# Altium integrated library 19inch.IntLib: 37 symbols
Pins are listed as number, name and electrical type; pins without a type are passive.

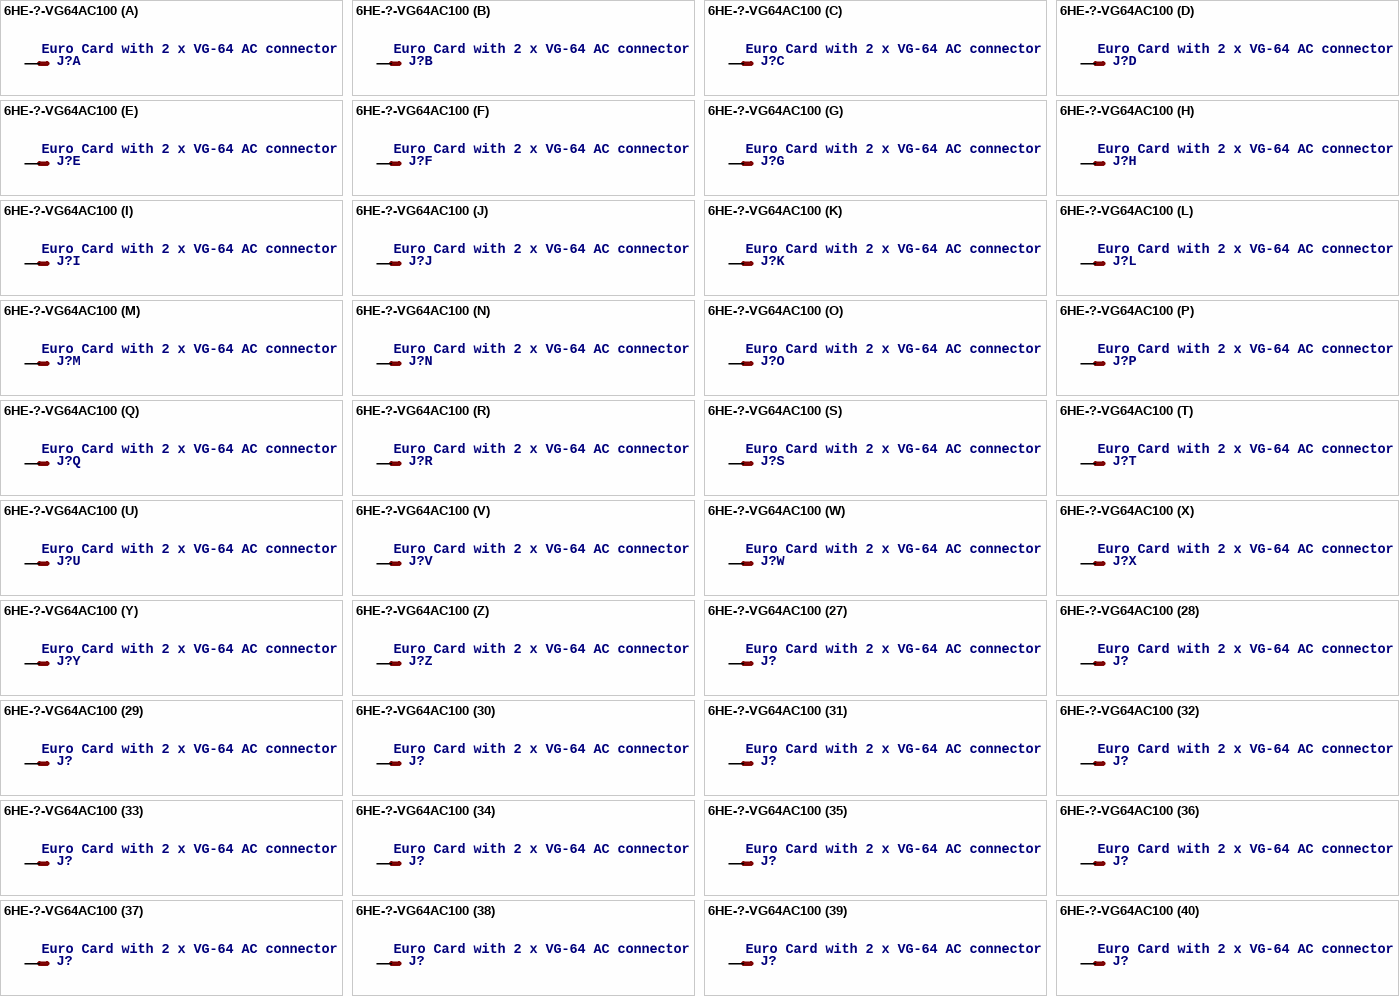
[diagram p0: symbol 6HE-?-VG64AC100]

## 6HE-?-VG64AC100
designator J?, comment Euro Card with 2 x VG-64 AC connector
footprint 6HE_100-VG64AC
part A pins: 1-A1 MSV
part B pins: 1-A2 MS
part C pins: 1-A3 MS
part D pins: 1-A4 MS
part E pins: 1-A5 MS
part F pins: 1-A6 MS
part G pins: 1-A7 MS
part H pins: 1-A8 MS
part I pins: 1-A9 MS
part J pins: 1-A10 MS
part K pins: 1-A11 MS
part L pins: 1-A12 MS
part M pins: 1-A13 MS
part N pins: 1-A14 MS
part O pins: 1-A15 MS
part P pins: 1-A16 MS
part Q pins: 1-A17 MS
part R pins: 1-A18 MS
part S pins: 1-A19 MS
part T pins: 1-A20 MS
part U pins: 1-A21 MS
part V pins: 1-A22 MS
part W pins: 1-A23 MS
part X pins: 1-A24 MS
part Y pins: 1-A25 MS
part Z pins: 1-A26 MS
part 27 pins: 1-A27 MS
part 28 pins: 1-A28 MS
part 29 pins: 1-A29 MS
part 30 pins: 1-A30 MS
part 31 pins: 1-A31 MS
part 32 pins: 1-A32 MS
part 33 pins: 1-C1 MSV
part 34 pins: 1-C2 MS
part 35 pins: 1-C3 MS
part 36 pins: 1-C4 MS
part 37 pins: 1-C5 MS
part 38 pins: 1-C6 MS
part 39 pins: 1-C7 MS
part 40 pins: 1-C8 MS
part 41 pins: 1-C9 MS
part 42 pins: 1-C10 MS
part 43 pins: 1-C11 MS
part 44 pins: 1-C12 MS
part 45 pins: 1-C13 MS
part 46 pins: 1-C14 MS
part 47 pins: 1-C15 MS
part 48 pins: 1-C16 MS
part 49 pins: 1-C17 MS
part 50 pins: 1-C18 MS
part 51 pins: 1-C19 MS
part 52 pins: 1-C20 MS
part 53 pins: 1-C21 MS
part 54 pins: 1-C22 MS
part 55 pins: 1-C23 MS
part 56 pins: 1-C24 MS
part 57 pins: 1-C25 MS
part 58 pins: 1-C26 MS
part 59 pins: 1-C27 MS
part 60 pins: 1-C28 MS
part 61 pins: 1-C29 MS
part 62 pins: 1-C30 MS
part 63 pins: 1-C31 MS
part 64 pins: 1-C32 MS
part 65 pins: 2-A1 MSV
part 66 pins: 2-A2 MS
part 67 pins: 2-A3 MS
part 68 pins: 2-A4 MS
part 69 pins: 2-A5 MS
part 70 pins: 2-A6 MS
part 71 pins: 2-A7 MS
part 72 pins: 2-A8 MS
part 73 pins: 2-A9 MS
part 74 pins: 2-A10 MS
part 75 pins: 2-A11 MS
part 76 pins: 2-A12 MS
part 77 pins: 2-A13 MS
part 78 pins: 2-A14 MS
part 79 pins: 2-A15 MS
part 80 pins: 2-A16 MS
part 81 pins: 2-A17 MS
part 82 pins: 2-A18 MS
part 83 pins: 2-A19 MS
part 84 pins: 2-A20 MS
part 85 pins: 2-A21 MS
part 86 pins: 2-A22 MS
part 87 pins: 2-A23 MS
part 88 pins: 2-A24 MS
part 89 pins: 2-A25 MS
part 90 pins: 2-A26 MS
part 91 pins: 2-A27 MS
part 92 pins: 2-A28 MS
part 93 pins: 2-A29 MS
part 94 pins: 2-A30 MS
part 95 pins: 2-A31 MS
part 96 pins: 2-A32 MS
part 97 pins: 2-C1 MSV
part 98 pins: 2-C2 MS
part 99 pins: 2-C3 MS
part 100 pins: 2-C4 MS
part 101 pins: 2-C5 MS
part 102 pins: 2-C6 MS
part 103 pins: 2-C7 MS
part 104 pins: 2-C8 MS
part 105 pins: 2-C9 MS
part 106 pins: 2-C10 MS
part 107 pins: 2-C11 MS
part 108 pins: 2-C12 MS
part 109 pins: 2-C13 MS
part 110 pins: 2-C14 MS
part 111 pins: 2-C15 MS
part 112 pins: 2-C16 MS
part 113 pins: 2-C17 MS
part 114 pins: 2-C18 MS
part 115 pins: 2-C19 MS
part 116 pins: 2-C20 MS
part 117 pins: 2-C21 MS
part 118 pins: 2-C22 MS
part 119 pins: 2-C23 MS
part 120 pins: 2-C24 MS
part 121 pins: 2-C25 MS
part 122 pins: 2-C26 MS
part 123 pins: 2-C27 MS
part 124 pins: 2-C28 MS
part 125 pins: 2-C29 MS
part 126 pins: 2-C30 MS
part 127 pins: 2-C31 MS
part 128 pins: 2-C32 MS

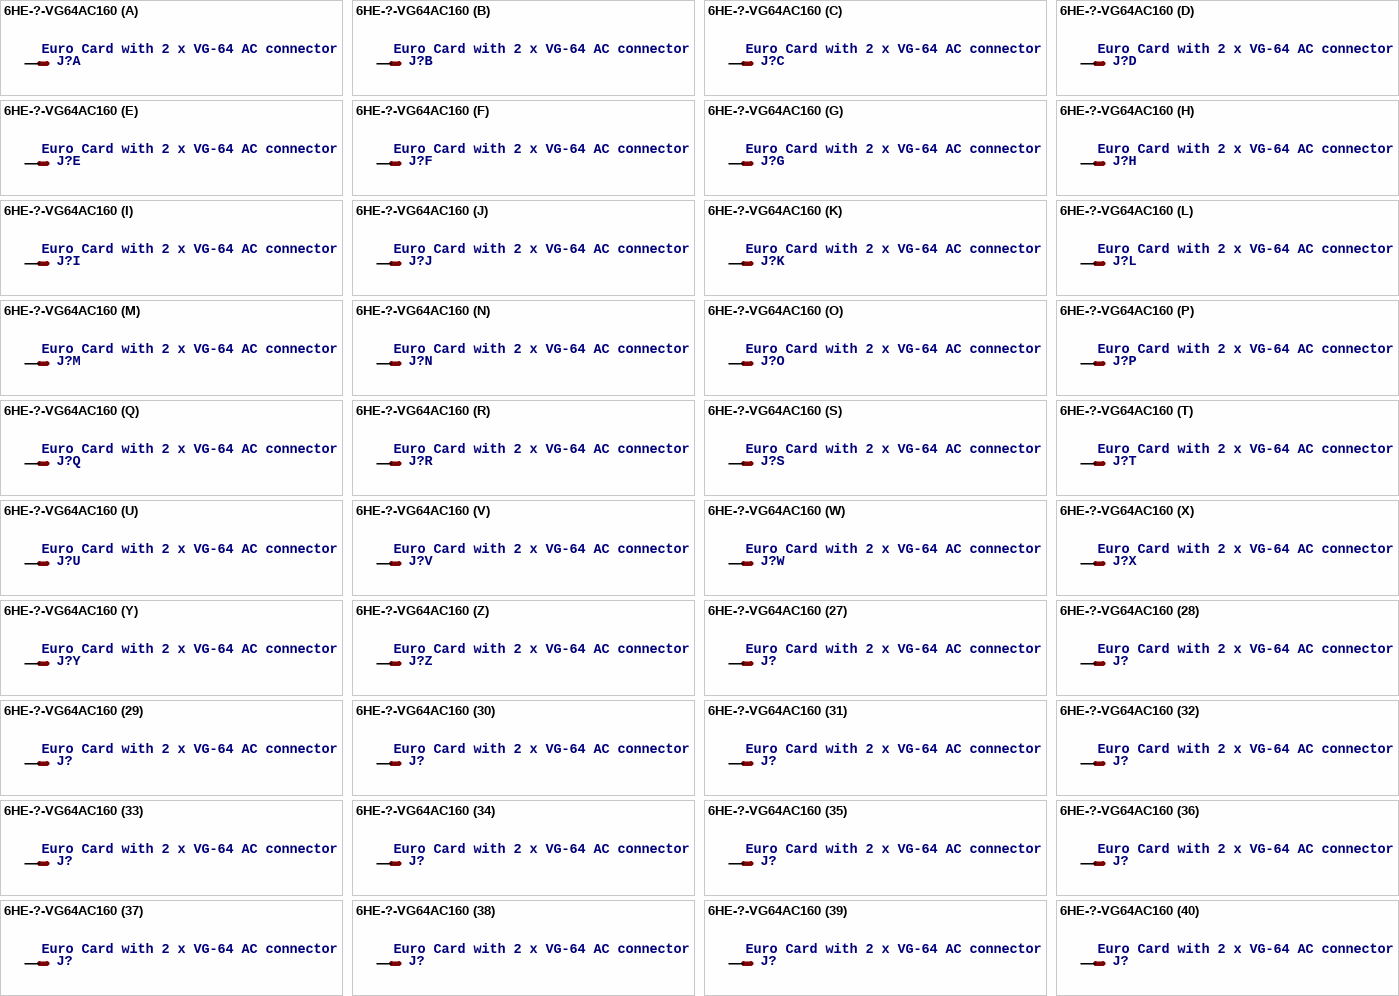
[diagram p1: symbol 6HE-?-VG64AC160]

## 6HE-?-VG64AC160
designator J?, comment Euro Card with 2 x VG-64 AC connector
footprint 6HE_160-VG64AC
part A pins: 1-A1 MSV
part B pins: 1-A2 MS
part C pins: 1-A3 MS
part D pins: 1-A4 MS
part E pins: 1-A5 MS
part F pins: 1-A6 MS
part G pins: 1-A7 MS
part H pins: 1-A8 MS
part I pins: 1-A9 MS
part J pins: 1-A10 MS
part K pins: 1-A11 MS
part L pins: 1-A12 MS
part M pins: 1-A13 MS
part N pins: 1-A14 MS
part O pins: 1-A15 MS
part P pins: 1-A16 MS
part Q pins: 1-A17 MS
part R pins: 1-A18 MS
part S pins: 1-A19 MS
part T pins: 1-A20 MS
part U pins: 1-A21 MS
part V pins: 1-A22 MS
part W pins: 1-A23 MS
part X pins: 1-A24 MS
part Y pins: 1-A25 MS
part Z pins: 1-A26 MS
part 27 pins: 1-A27 MS
part 28 pins: 1-A28 MS
part 29 pins: 1-A29 MS
part 30 pins: 1-A30 MS
part 31 pins: 1-A31 MS
part 32 pins: 1-A32 MS
part 33 pins: 1-C1 MSV
part 34 pins: 1-C2 MS
part 35 pins: 1-C3 MS
part 36 pins: 1-C4 MS
part 37 pins: 1-C5 MS
part 38 pins: 1-C6 MS
part 39 pins: 1-C7 MS
part 40 pins: 1-C8 MS
part 41 pins: 1-C9 MS
part 42 pins: 1-C10 MS
part 43 pins: 1-C11 MS
part 44 pins: 1-C12 MS
part 45 pins: 1-C13 MS
part 46 pins: 1-C14 MS
part 47 pins: 1-C15 MS
part 48 pins: 1-C16 MS
part 49 pins: 1-C17 MS
part 50 pins: 1-C18 MS
part 51 pins: 1-C19 MS
part 52 pins: 1-C20 MS
part 53 pins: 1-C21 MS
part 54 pins: 1-C22 MS
part 55 pins: 1-C23 MS
part 56 pins: 1-C24 MS
part 57 pins: 1-C25 MS
part 58 pins: 1-C26 MS
part 59 pins: 1-C27 MS
part 60 pins: 1-C28 MS
part 61 pins: 1-C29 MS
part 62 pins: 1-C30 MS
part 63 pins: 1-C31 MS
part 64 pins: 1-C32 MS
part 65 pins: 2-A1 MSV
part 66 pins: 2-A2 MS
part 67 pins: 2-A3 MS
part 68 pins: 2-A4 MS
part 69 pins: 2-A5 MS
part 70 pins: 2-A6 MS
part 71 pins: 2-A7 MS
part 72 pins: 2-A8 MS
part 73 pins: 2-A9 MS
part 74 pins: 2-A10 MS
part 75 pins: 2-A11 MS
part 76 pins: 2-A12 MS
part 77 pins: 2-A13 MS
part 78 pins: 2-A14 MS
part 79 pins: 2-A15 MS
part 80 pins: 2-A16 MS
part 81 pins: 2-A17 MS
part 82 pins: 2-A18 MS
part 83 pins: 2-A19 MS
part 84 pins: 2-A20 MS
part 85 pins: 2-A21 MS
part 86 pins: 2-A22 MS
part 87 pins: 2-A23 MS
part 88 pins: 2-A24 MS
part 89 pins: 2-A25 MS
part 90 pins: 2-A26 MS
part 91 pins: 2-A27 MS
part 92 pins: 2-A28 MS
part 93 pins: 2-A29 MS
part 94 pins: 2-A30 MS
part 95 pins: 2-A31 MS
part 96 pins: 2-A32 MS
part 97 pins: 2-C1 MSV
part 98 pins: 2-C2 MS
part 99 pins: 2-C3 MS
part 100 pins: 2-C4 MS
part 101 pins: 2-C5 MS
part 102 pins: 2-C6 MS
part 103 pins: 2-C7 MS
part 104 pins: 2-C8 MS
part 105 pins: 2-C9 MS
part 106 pins: 2-C10 MS
part 107 pins: 2-C11 MS
part 108 pins: 2-C12 MS
part 109 pins: 2-C13 MS
part 110 pins: 2-C14 MS
part 111 pins: 2-C15 MS
part 112 pins: 2-C16 MS
part 113 pins: 2-C17 MS
part 114 pins: 2-C18 MS
part 115 pins: 2-C19 MS
part 116 pins: 2-C20 MS
part 117 pins: 2-C21 MS
part 118 pins: 2-C22 MS
part 119 pins: 2-C23 MS
part 120 pins: 2-C24 MS
part 121 pins: 2-C25 MS
part 122 pins: 2-C26 MS
part 123 pins: 2-C27 MS
part 124 pins: 2-C28 MS
part 125 pins: 2-C29 MS
part 126 pins: 2-C30 MS
part 127 pins: 2-C31 MS
part 128 pins: 2-C32 MS

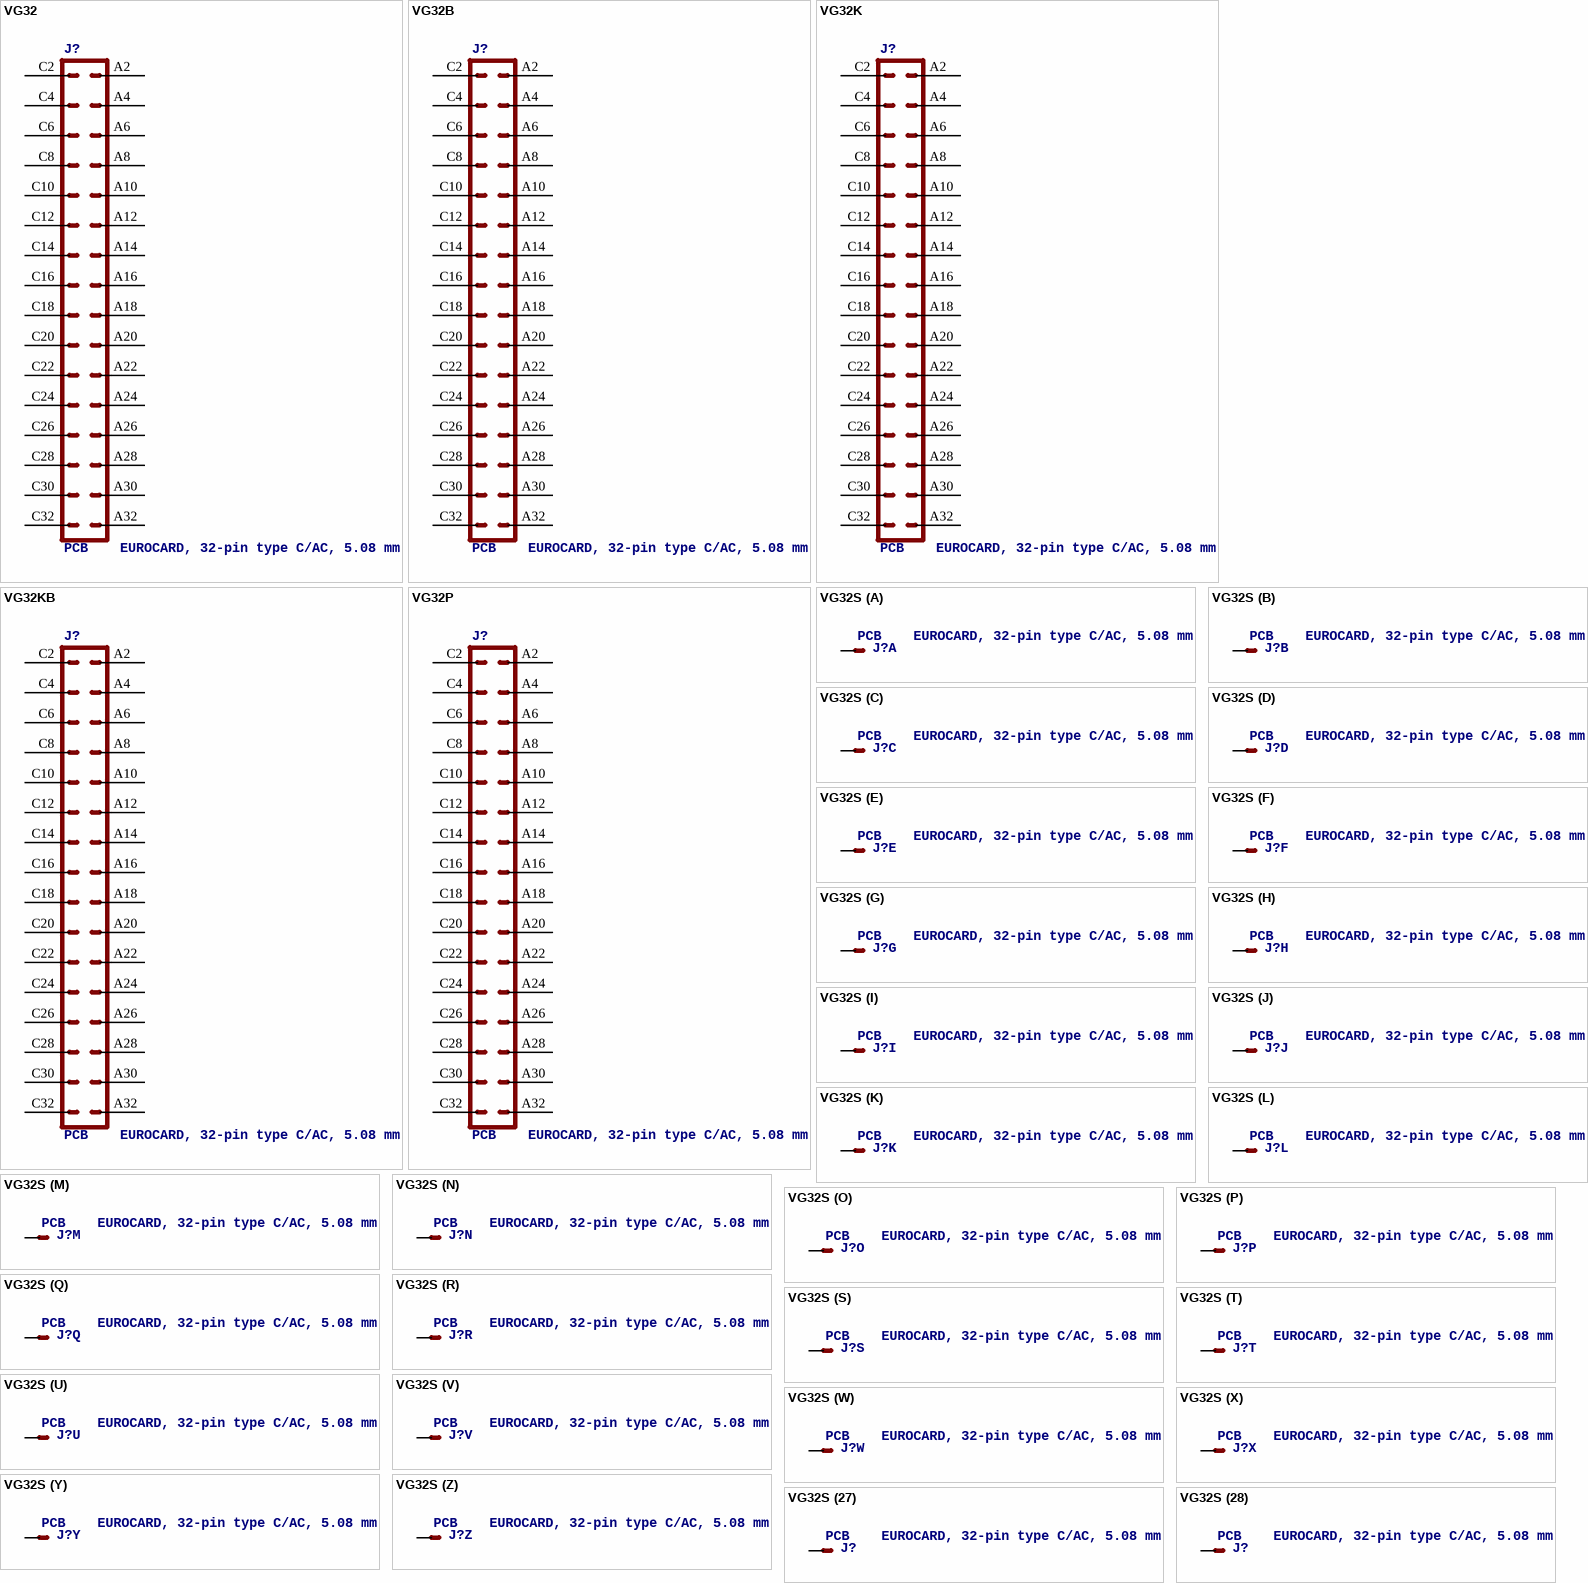
[diagram p2: symbols VG32 to VG32S]

## VG32
designator J?, comment PCB    EUROCARD, 32-pin type C/AC, 5.08 mm
footprint VG32
pins: A2, A4, A6, A8, A10, A12, A14, A16, A18, A20, A22, A24, A26, A28, A30, A32, C2, C4, C6, C8, C10, C12, C14, C16, C18, C20, C22, C24, C26, C28, C30, C32

## VG32B
designator J?, comment PCB    EUROCARD, 32-pin type C/AC, 5.08 mm
footprint VG32B
pins: A2, A4, A6, A8, A10, A12, A14, A16, A18, A20, A22, A24, A26, A28, A30, A32, C2, C4, C6, C8, C10, C12, C14, C16, C18, C20, C22, C24, C26, C28, C30, C32

## VG32K
designator J?, comment PCB    EUROCARD, 32-pin type C/AC, 5.08 mm
footprint VG32K
pins: A2, A4, A6, A8, A10, A12, A14, A16, A18, A20, A22, A24, A26, A28, A30, A32, C2, C4, C6, C8, C10, C12, C14, C16, C18, C20, C22, C24, C26, C28, C30, C32

## VG32KB
designator J?, comment PCB    EUROCARD, 32-pin type C/AC, 5.08 mm
footprint VG32KB
pins: A2, A4, A6, A8, A10, A12, A14, A16, A18, A20, A22, A24, A26, A28, A30, A32, C2, C4, C6, C8, C10, C12, C14, C16, C18, C20, C22, C24, C26, C28, C30, C32

## VG32P
designator J?, comment PCB    EUROCARD, 32-pin type C/AC, 5.08 mm
footprint VG32P
pins: A2, A4, A6, A8, A10, A12, A14, A16, A18, A20, A22, A24, A26, A28, A30, A32, C2, C4, C6, C8, C10, C12, C14, C16, C18, C20, C22, C24, C26, C28, C30, C32

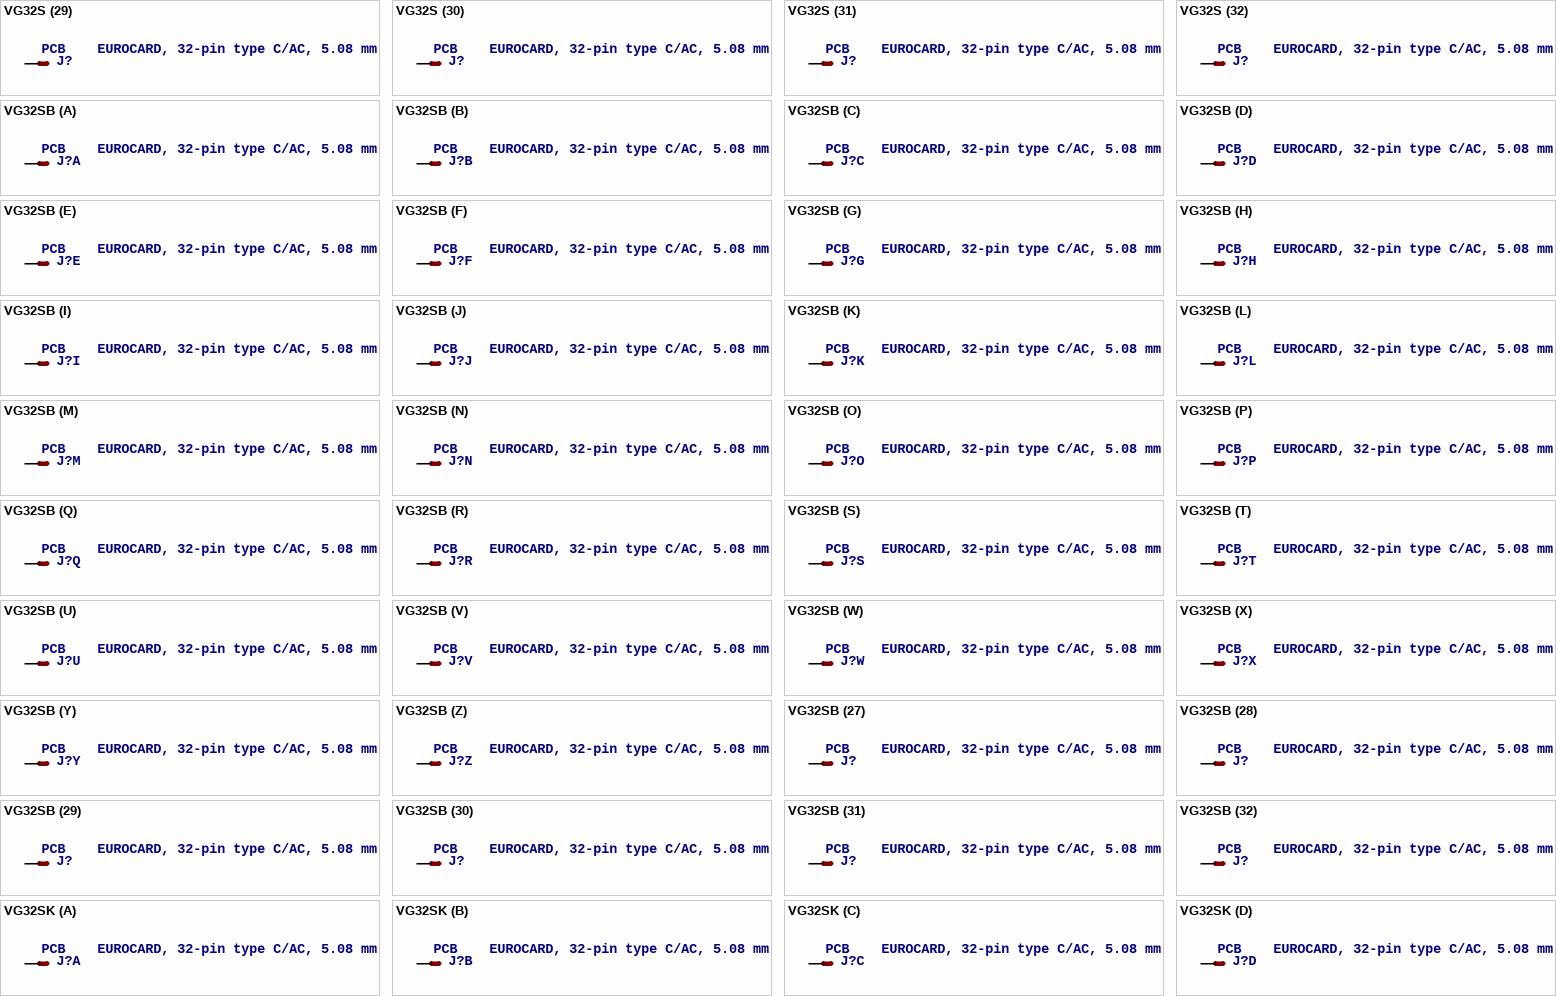
[diagram p3: symbols VG32S to VG32SK]

## VG32S
designator J?, comment PCB    EUROCARD, 32-pin type C/AC, 5.08 mm
footprint VG32
part A pins: A2 MS
part B pins: A4 MS
part C pins: A6 MS
part D pins: A8 MS
part E pins: A10 MS
part F pins: A12 MS
part G pins: A14 MS
part H pins: A16 MS
part I pins: A18 MS
part J pins: A20 MS
part K pins: A22 MS
part L pins: A24 MS
part M pins: A26 MS
part N pins: A28 MS
part O pins: A30 MS
part P pins: A32 MS
part Q pins: C2 MS
part R pins: C4 MS
part S pins: C6 MS
part T pins: C8 MS
part U pins: C10 MS
part V pins: C12 MS
part W pins: C14 MS
part X pins: C16 MS
part Y pins: C18 MS
part Z pins: C20 MS
part 27 pins: C22 MS
part 28 pins: C24 MS
part 29 pins: C26 MS
part 30 pins: C28 MS
part 31 pins: C30 MS
part 32 pins: C32 MSV

## VG32SB
designator J?, comment PCB    EUROCARD, 32-pin type C/AC, 5.08 mm
footprint VG32B
part A pins: A2 MS
part B pins: A4 MS
part C pins: A6 MS
part D pins: A8 MS
part E pins: A10 MS
part F pins: A12 MS
part G pins: A14 MS
part H pins: A16 MS
part I pins: A18 MS
part J pins: A20 MS
part K pins: A22 MS
part L pins: A24 MS
part M pins: A26 MS
part N pins: A28 MS
part O pins: A30 MS
part P pins: A32 MS
part Q pins: C2 MS
part R pins: C4 MS
part S pins: C6 MS
part T pins: C8 MS
part U pins: C10 MS
part V pins: C12 MS
part W pins: C14 MS
part X pins: C16 MS
part Y pins: C18 MS
part Z pins: C20 MS
part 27 pins: C22 MS
part 28 pins: C24 MS
part 29 pins: C26 MS
part 30 pins: C28 MS
part 31 pins: C30 MS
part 32 pins: C32 MSV

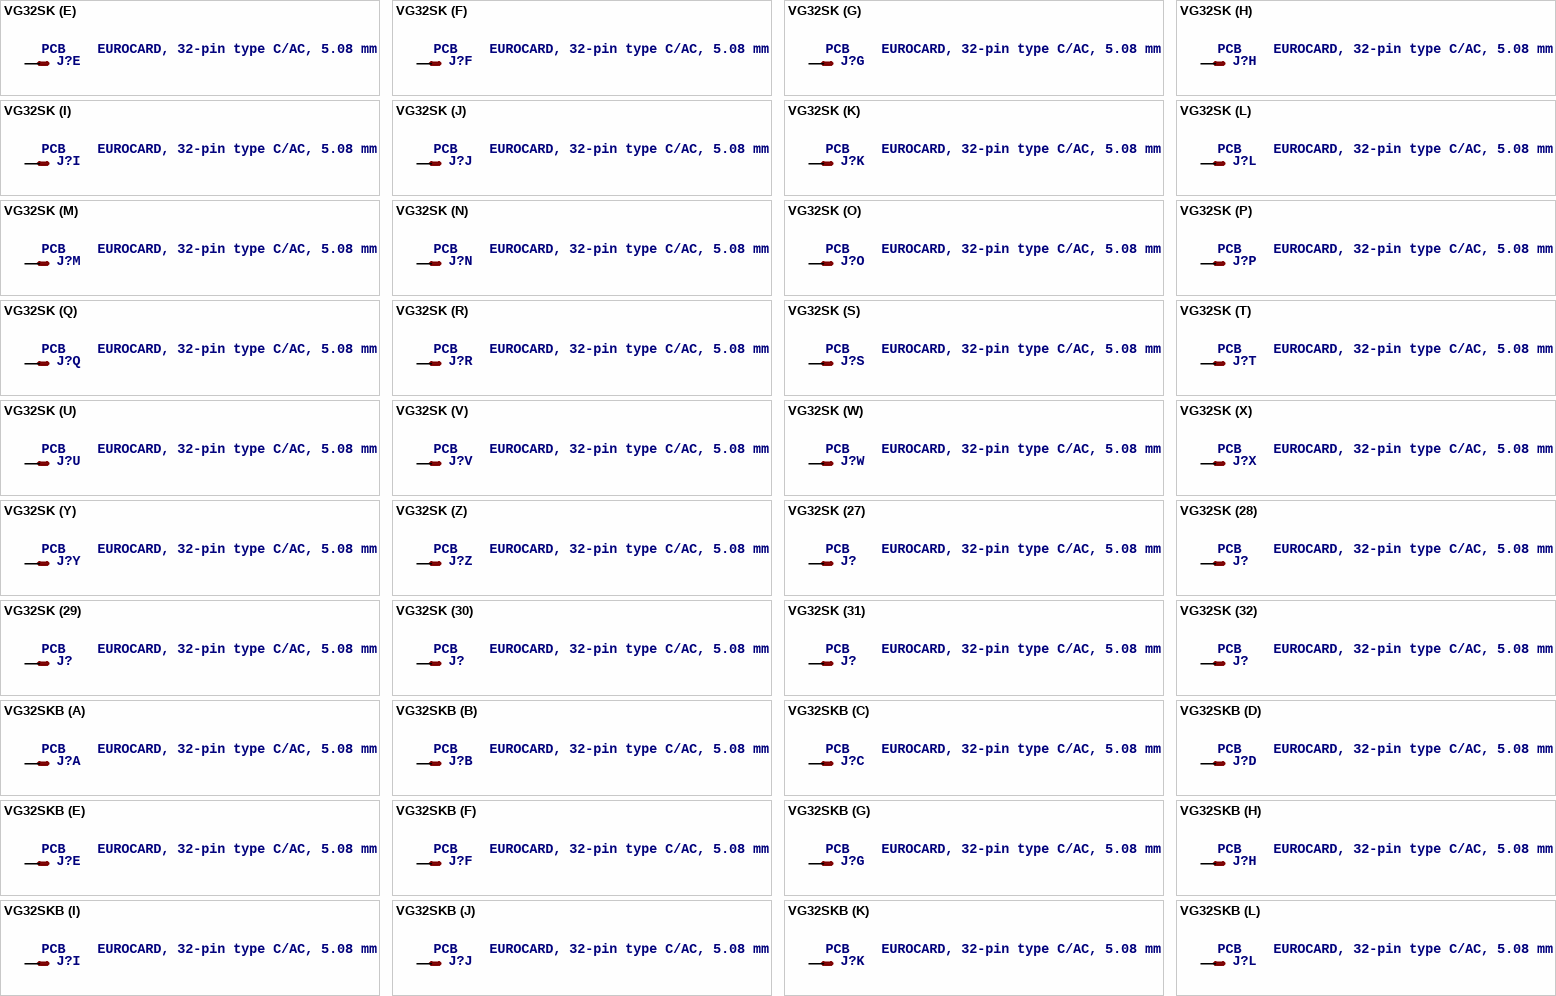
[diagram p4: symbols VG32SK to VG32SKB]

## VG32SK
designator J?, comment PCB    EUROCARD, 32-pin type C/AC, 5.08 mm
footprint VG32K
part A pins: A2 MS
part B pins: A4 MS
part C pins: A6 MS
part D pins: A8 MS
part E pins: A10 MS
part F pins: A12 MS
part G pins: A14 MS
part H pins: A16 MS
part I pins: A18 MS
part J pins: A20 MS
part K pins: A22 MS
part L pins: A24 MS
part M pins: A26 MS
part N pins: A28 MS
part O pins: A30 MS
part P pins: A32 MS
part Q pins: C2 MS
part R pins: C4 MS
part S pins: C6 MS
part T pins: C8 MS
part U pins: C10 MS
part V pins: C12 MS
part W pins: C14 MS
part X pins: C16 MS
part Y pins: C18 MS
part Z pins: C20 MS
part 27 pins: C22 MS
part 28 pins: C24 MS
part 29 pins: C26 MS
part 30 pins: C28 MS
part 31 pins: C30 MS
part 32 pins: C32 MSV

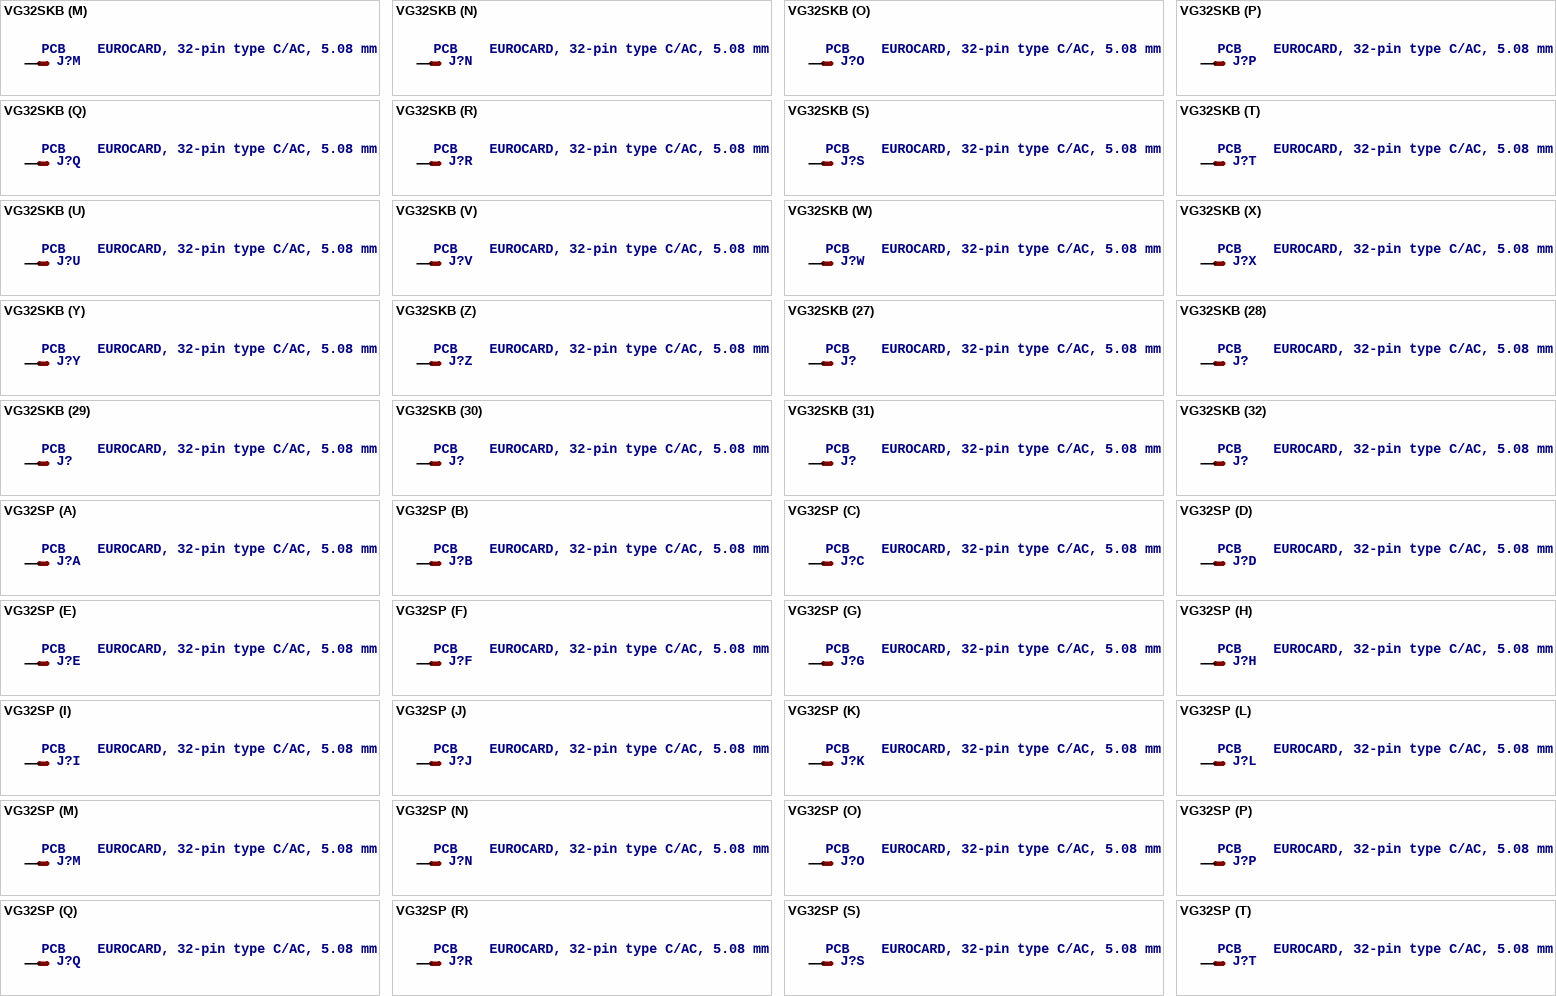
[diagram p5: symbols VG32SKB to VG32SP]

## VG32SKB
designator J?, comment PCB    EUROCARD, 32-pin type C/AC, 5.08 mm
footprint VG32KB
part A pins: A2 MS
part B pins: A4 MS
part C pins: A6 MS
part D pins: A8 MS
part E pins: A10 MS
part F pins: A12 MS
part G pins: A14 MS
part H pins: A16 MS
part I pins: A18 MS
part J pins: A20 MS
part K pins: A22 MS
part L pins: A24 MS
part M pins: A26 MS
part N pins: A28 MS
part O pins: A30 MS
part P pins: A32 MS
part Q pins: C2 MS
part R pins: C4 MS
part S pins: C6 MS
part T pins: C8 MS
part U pins: C10 MS
part V pins: C12 MS
part W pins: C14 MS
part X pins: C16 MS
part Y pins: C18 MS
part Z pins: C20 MS
part 27 pins: C22 MS
part 28 pins: C24 MS
part 29 pins: C26 MS
part 30 pins: C28 MS
part 31 pins: C30 MS
part 32 pins: C32 MSV

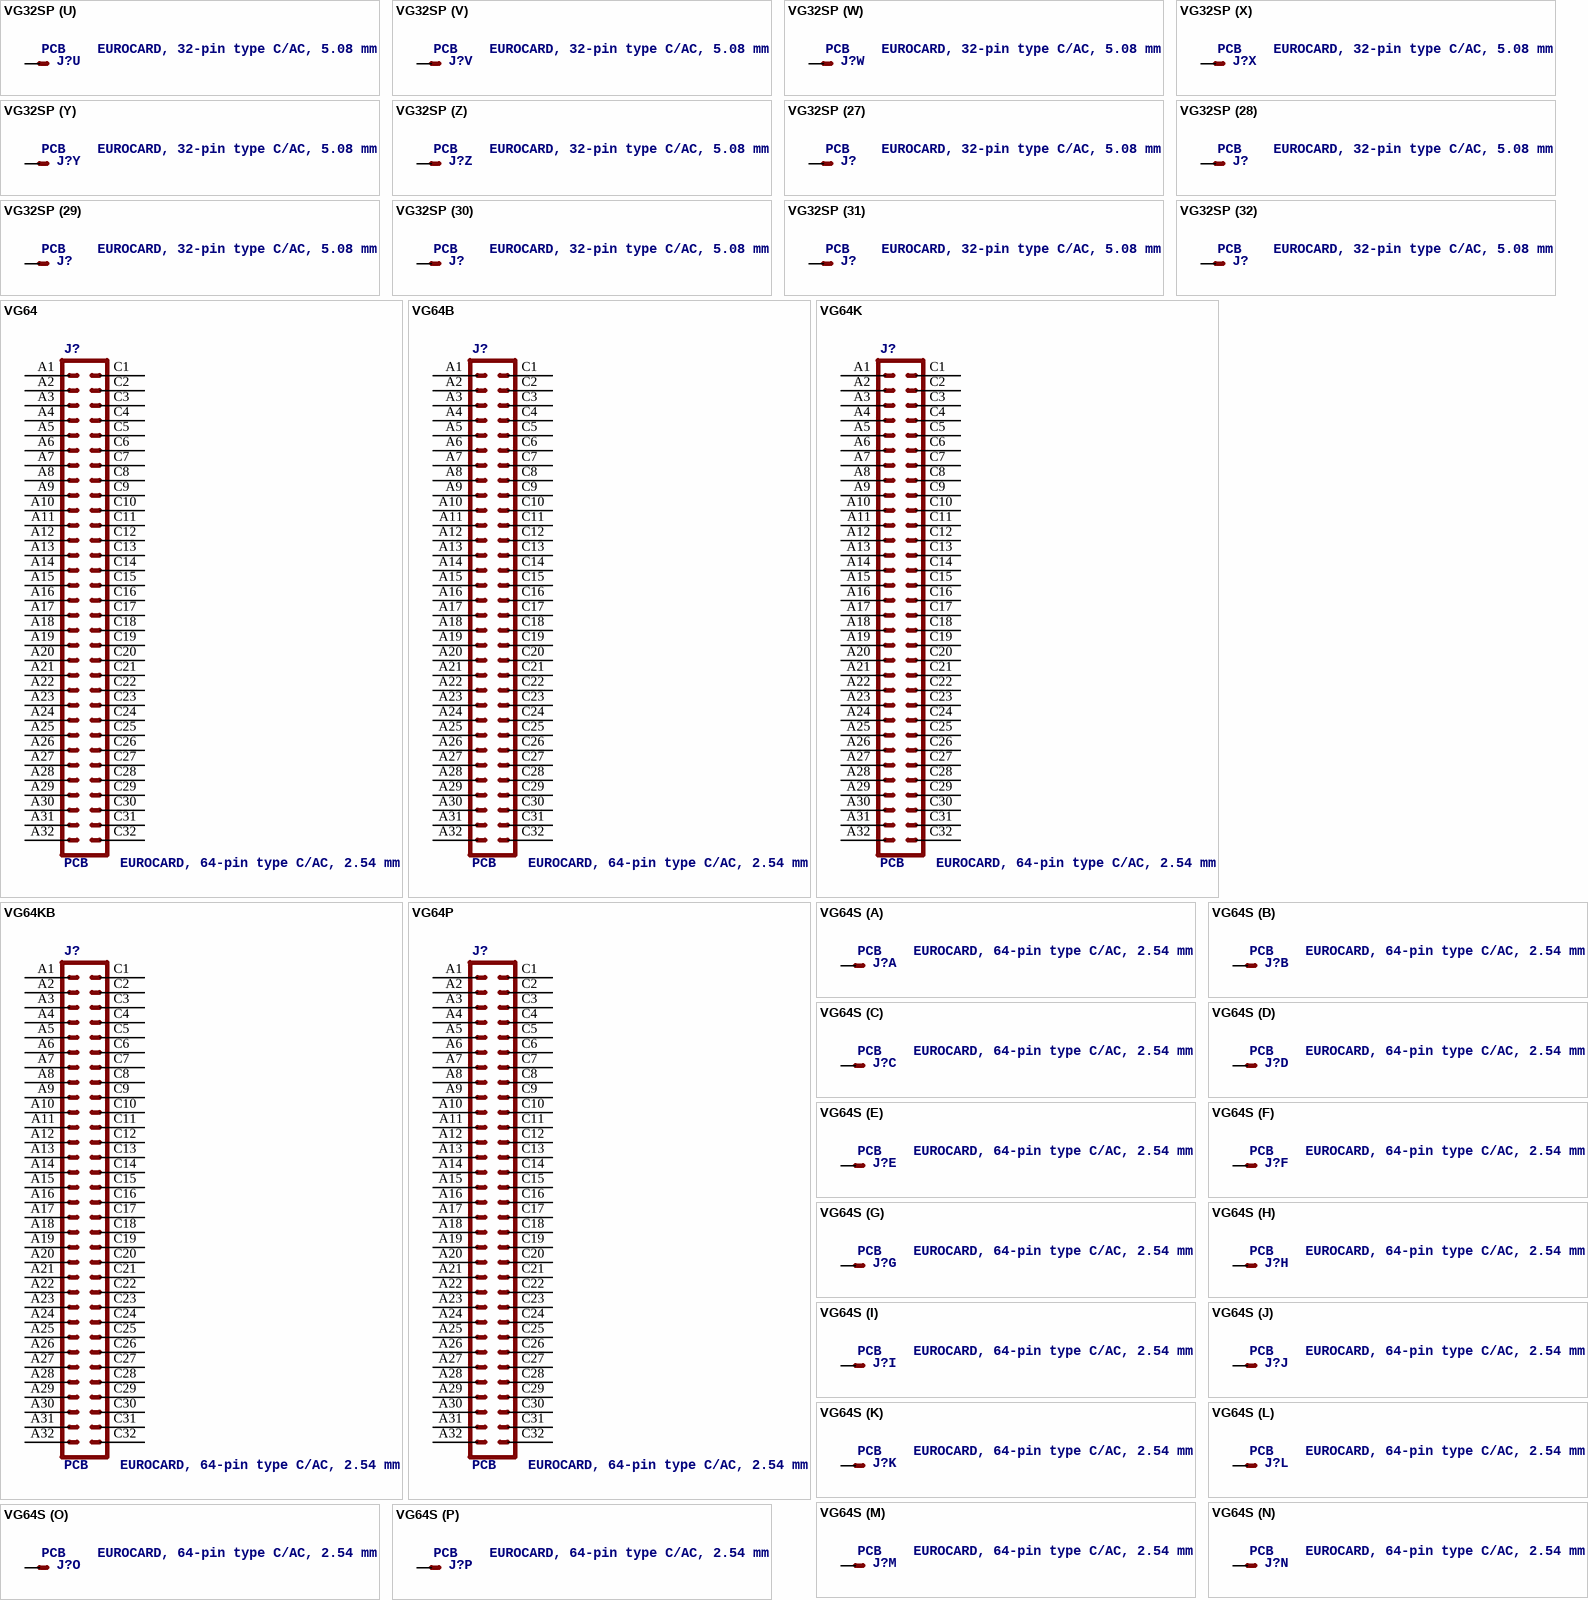
[diagram p6: symbols VG32SP to VG64S]

## VG32SP
designator J?, comment PCB    EUROCARD, 32-pin type C/AC, 5.08 mm
footprint VG32P
part A pins: A2 MS
part B pins: A4 MS
part C pins: A6 MS
part D pins: A8 MS
part E pins: A10 MS
part F pins: A12 MS
part G pins: A14 MS
part H pins: A16 MS
part I pins: A18 MS
part J pins: A20 MS
part K pins: A22 MS
part L pins: A24 MS
part M pins: A26 MS
part N pins: A28 MS
part O pins: A30 MS
part P pins: A32 MS
part Q pins: C2 MS
part R pins: C4 MS
part S pins: C6 MS
part T pins: C8 MS
part U pins: C10 MS
part V pins: C12 MS
part W pins: C14 MS
part X pins: C16 MS
part Y pins: C18 MS
part Z pins: C20 MS
part 27 pins: C22 MS
part 28 pins: C24 MS
part 29 pins: C26 MS
part 30 pins: C28 MS
part 31 pins: C30 MS
part 32 pins: C32 MSV

## VG64
designator J?, comment PCB    EUROCARD, 64-pin type C/AC, 2.54 mm
footprint VG64
pins: A1, A2, A3, A4, A5, A6, A7, A8, A9, A10, A11, A12, A13, A14, A15, A16, A17, A18, A19, A20, A21, A22, A23, A24, A25, A26, A27, A28, A29, A30, A31, A32, C1, C2, C3, C4, C5, C6, C7, C8, C9, C10, C11, C12, C13, C14, C15, C16, C17, C18, C19, C20, C21, C22, C23, C24, C25, C26, C27, C28, C29, C30, C31, C32

## VG64B
designator J?, comment PCB    EUROCARD, 64-pin type C/AC, 2.54 mm
footprint VG64B
pins: A1, A2, A3, A4, A5, A6, A7, A8, A9, A10, A11, A12, A13, A14, A15, A16, A17, A18, A19, A20, A21, A22, A23, A24, A25, A26, A27, A28, A29, A30, A31, A32, C1, C2, C3, C4, C5, C6, C7, C8, C9, C10, C11, C12, C13, C14, C15, C16, C17, C18, C19, C20, C21, C22, C23, C24, C25, C26, C27, C28, C29, C30, C31, C32

## VG64K
designator J?, comment PCB    EUROCARD, 64-pin type C/AC, 2.54 mm
footprint VG64K
pins: A1, A2, A3, A4, A5, A6, A7, A8, A9, A10, A11, A12, A13, A14, A15, A16, A17, A18, A19, A20, A21, A22, A23, A24, A25, A26, A27, A28, A29, A30, A31, A32, C1, C2, C3, C4, C5, C6, C7, C8, C9, C10, C11, C12, C13, C14, C15, C16, C17, C18, C19, C20, C21, C22, C23, C24, C25, C26, C27, C28, C29, C30, C31, C32

## VG64KB
designator J?, comment PCB    EUROCARD, 64-pin type C/AC, 2.54 mm
footprint VG64KB
pins: A1, A2, A3, A4, A5, A6, A7, A8, A9, A10, A11, A12, A13, A14, A15, A16, A17, A18, A19, A20, A21, A22, A23, A24, A25, A26, A27, A28, A29, A30, A31, A32, C1, C2, C3, C4, C5, C6, C7, C8, C9, C10, C11, C12, C13, C14, C15, C16, C17, C18, C19, C20, C21, C22, C23, C24, C25, C26, C27, C28, C29, C30, C31, C32

## VG64P
designator J?, comment PCB    EUROCARD, 64-pin type C/AC, 2.54 mm
footprint VG64P
pins: A1, A2, A3, A4, A5, A6, A7, A8, A9, A10, A11, A12, A13, A14, A15, A16, A17, A18, A19, A20, A21, A22, A23, A24, A25, A26, A27, A28, A29, A30, A31, A32, C1, C2, C3, C4, C5, C6, C7, C8, C9, C10, C11, C12, C13, C14, C15, C16, C17, C18, C19, C20, C21, C22, C23, C24, C25, C26, C27, C28, C29, C30, C31, C32

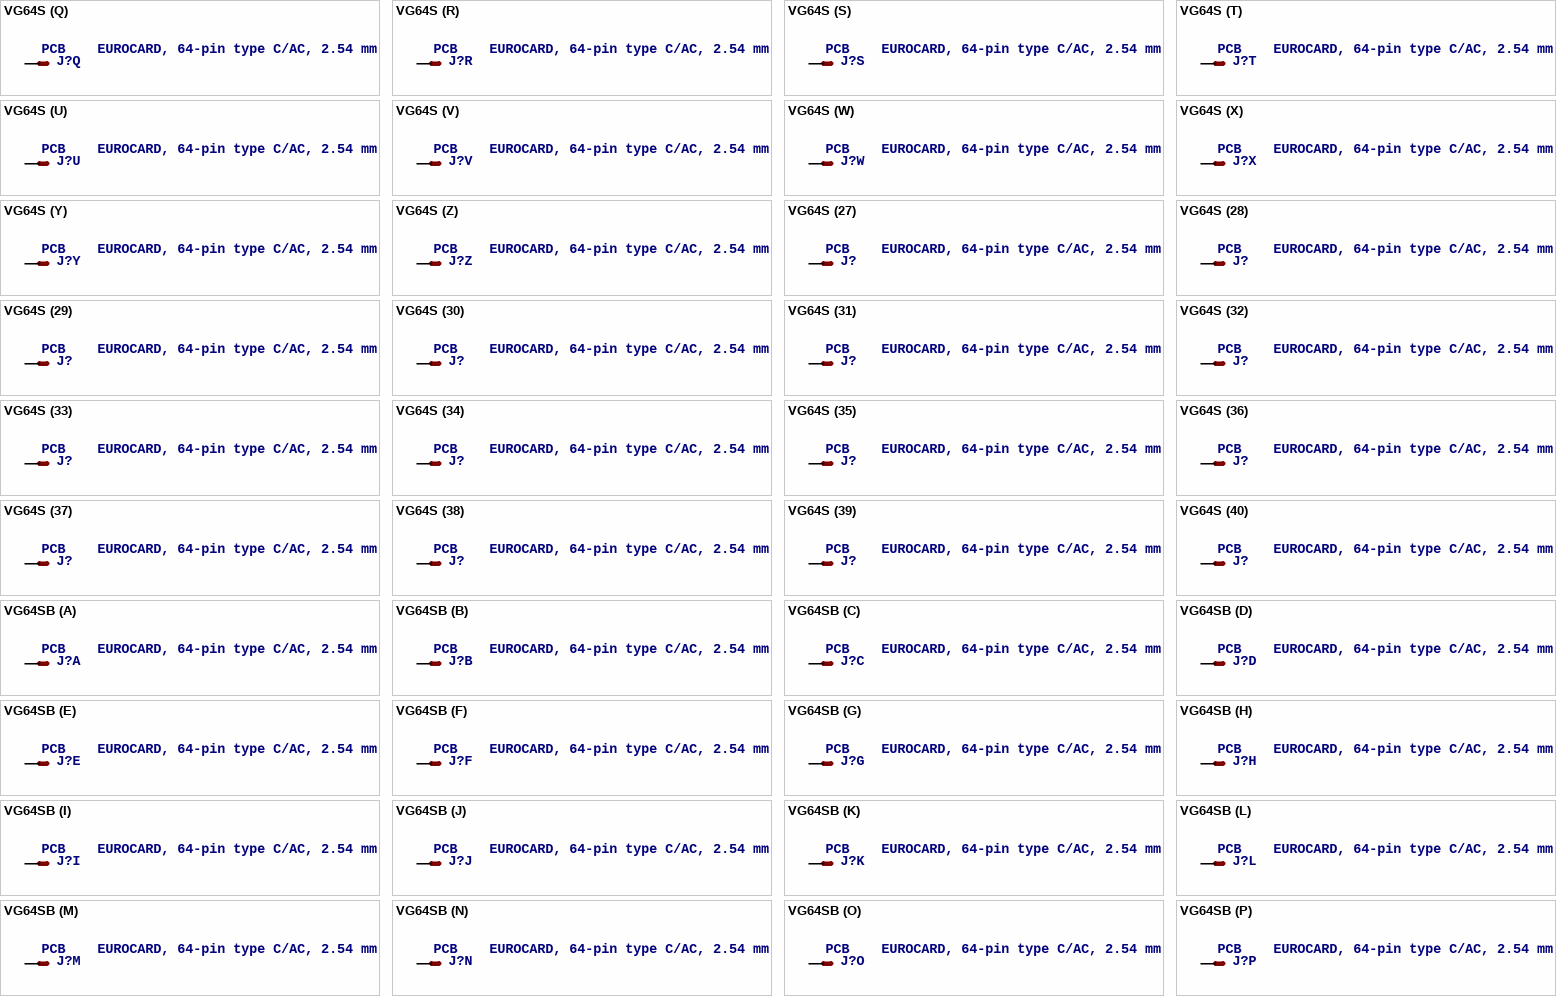
[diagram p7: symbols VG64S to VG64SB]

## VG64S
designator J?, comment PCB    EUROCARD, 64-pin type C/AC, 2.54 mm
footprint VG64
part A pins: A1 MS
part B pins: A2 MS
part C pins: A3 MS
part D pins: A4 MS
part E pins: A5 MS
part F pins: A6 MS
part G pins: A7 MS
part H pins: A8 MS
part I pins: A9 MS
part J pins: A10 MS
part K pins: A11 MS
part L pins: A12 MS
part M pins: A13 MS
part N pins: A14 MS
part O pins: A15 MS
part P pins: A16 MS
part Q pins: A17 MS
part R pins: A18 MS
part S pins: A19 MS
part T pins: A20 MS
part U pins: A21 MS
part V pins: A22 MS
part W pins: A23 MS
part X pins: A24 MS
part Y pins: A25 MS
part Z pins: A26 MS
part 27 pins: A27 MS
part 28 pins: A28 MS
part 29 pins: A29 MS
part 30 pins: A30 MS
part 31 pins: A31 MS
part 32 pins: A32 MS
part 33 pins: C1 MS
part 34 pins: C2 MS
part 35 pins: C3 MS
part 36 pins: C4 MS
part 37 pins: C5 MS
part 38 pins: C6 MS
part 39 pins: C7 MS
part 40 pins: C8 MS
part 41 pins: C9 MS
part 42 pins: C10 MS
part 43 pins: C11 MS
part 44 pins: C12 MS
part 45 pins: C13 MS
part 46 pins: C14 MS
part 47 pins: C15 MS
part 48 pins: C16 MS
part 49 pins: C17 MS
part 50 pins: C18 MS
part 51 pins: C19 MS
part 52 pins: C20 MS
part 53 pins: C21 MS
part 54 pins: C22 MS
part 55 pins: C23 MS
part 56 pins: C24 MS
part 57 pins: C25 MS
part 58 pins: C26 MS
part 59 pins: C27 MS
part 60 pins: C28 MS
part 61 pins: C29 MS
part 62 pins: C30 MS
part 63 pins: C31 MS
part 64 pins: C32 MSV

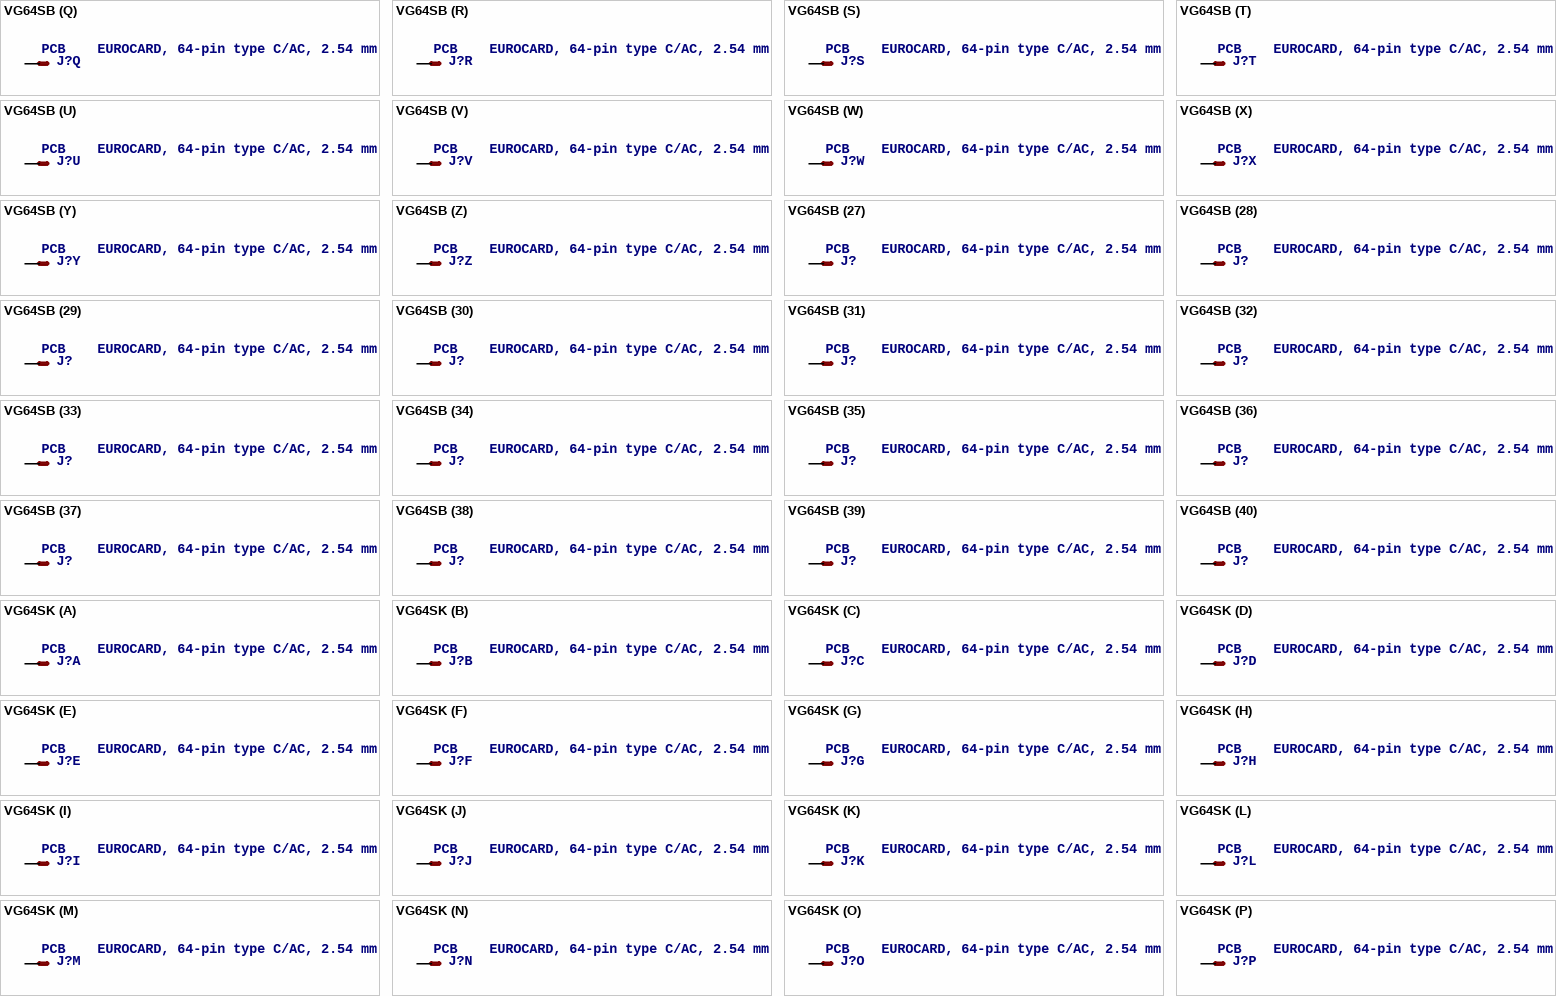
[diagram p8: symbols VG64SB to VG64SK]

## VG64SB
designator J?, comment PCB    EUROCARD, 64-pin type C/AC, 2.54 mm
footprint VG64B
part A pins: A1 MS
part B pins: A2 MS
part C pins: A3 MS
part D pins: A4 MS
part E pins: A5 MS
part F pins: A6 MS
part G pins: A7 MS
part H pins: A8 MS
part I pins: A9 MS
part J pins: A10 MS
part K pins: A11 MS
part L pins: A12 MS
part M pins: A13 MS
part N pins: A14 MS
part O pins: A15 MS
part P pins: A16 MS
part Q pins: A17 MS
part R pins: A18 MS
part S pins: A19 MS
part T pins: A20 MS
part U pins: A21 MS
part V pins: A22 MS
part W pins: A23 MS
part X pins: A24 MS
part Y pins: A25 MS
part Z pins: A26 MS
part 27 pins: A27 MS
part 28 pins: A28 MS
part 29 pins: A29 MS
part 30 pins: A30 MS
part 31 pins: A31 MS
part 32 pins: A32 MS
part 33 pins: C1 MS
part 34 pins: C2 MS
part 35 pins: C3 MS
part 36 pins: C4 MS
part 37 pins: C5 MS
part 38 pins: C6 MS
part 39 pins: C7 MS
part 40 pins: C8 MS
part 41 pins: C9 MS
part 42 pins: C10 MS
part 43 pins: C11 MS
part 44 pins: C12 MS
part 45 pins: C13 MS
part 46 pins: C14 MS
part 47 pins: C15 MS
part 48 pins: C16 MS
part 49 pins: C17 MS
part 50 pins: C18 MS
part 51 pins: C19 MS
part 52 pins: C20 MS
part 53 pins: C21 MS
part 54 pins: C22 MS
part 55 pins: C23 MS
part 56 pins: C24 MS
part 57 pins: C25 MS
part 58 pins: C26 MS
part 59 pins: C27 MS
part 60 pins: C28 MS
part 61 pins: C29 MS
part 62 pins: C30 MS
part 63 pins: C31 MS
part 64 pins: C32 MSV

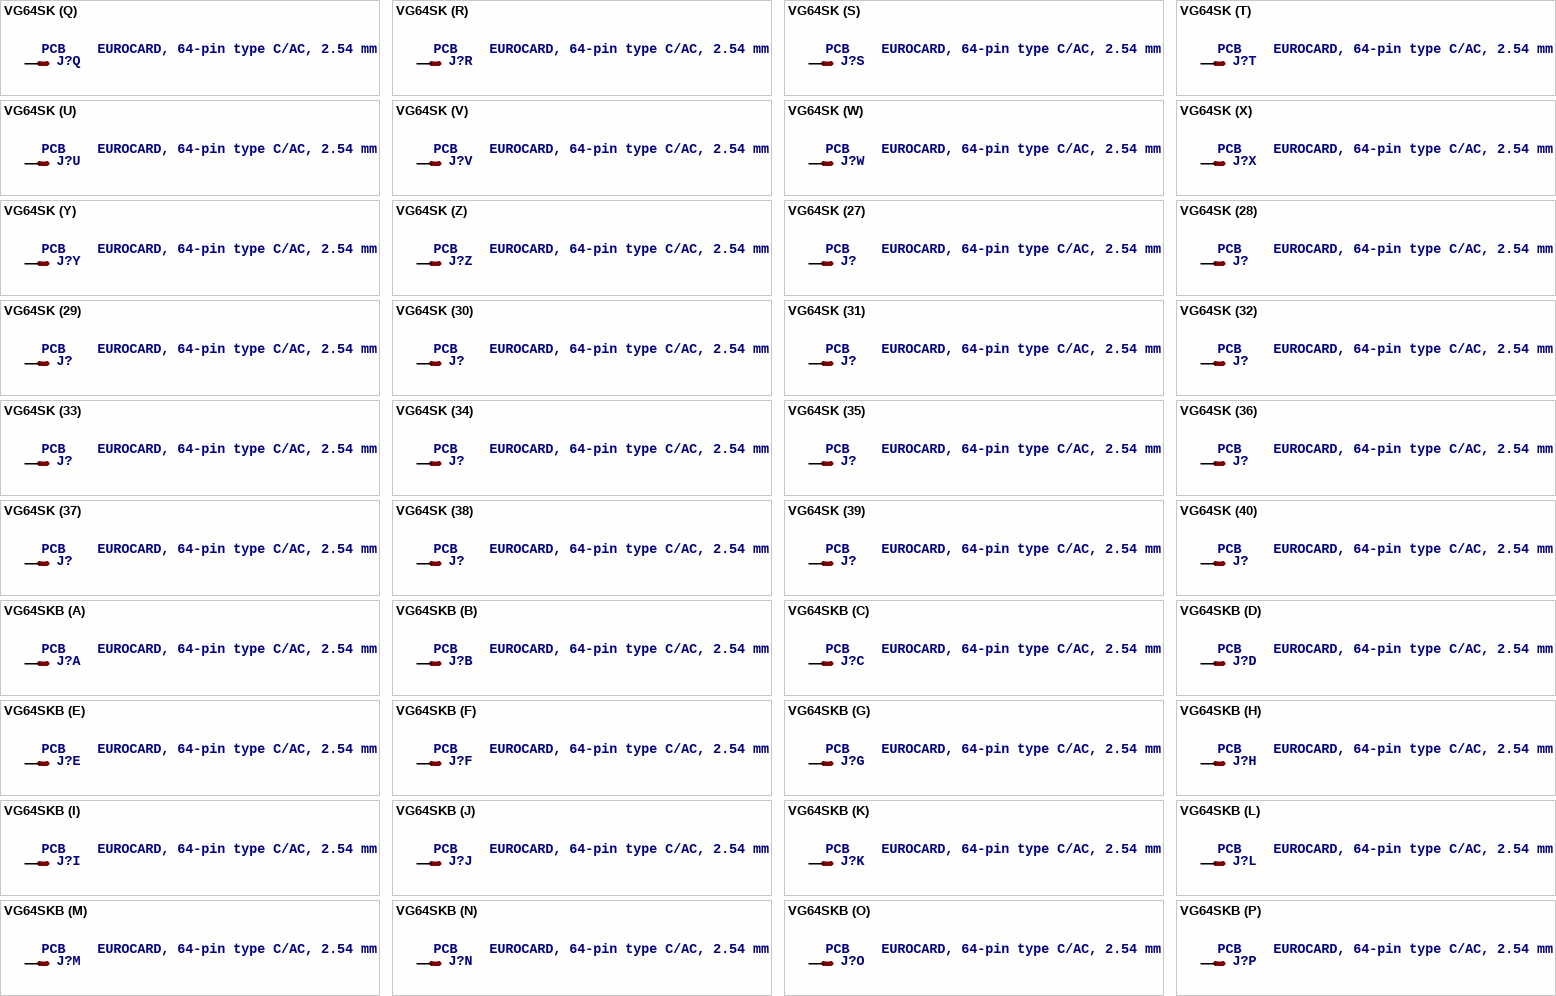
[diagram p9: symbols VG64SK to VG64SKB]

## VG64SK
designator J?, comment PCB    EUROCARD, 64-pin type C/AC, 2.54 mm
footprint VG64K
part A pins: A1 MS
part B pins: A2 MS
part C pins: A3 MS
part D pins: A4 MS
part E pins: A5 MS
part F pins: A6 MS
part G pins: A7 MS
part H pins: A8 MS
part I pins: A9 MS
part J pins: A10 MS
part K pins: A11 MS
part L pins: A12 MS
part M pins: A13 MS
part N pins: A14 MS
part O pins: A15 MS
part P pins: A16 MS
part Q pins: A17 MS
part R pins: A18 MS
part S pins: A19 MS
part T pins: A20 MS
part U pins: A21 MS
part V pins: A22 MS
part W pins: A23 MS
part X pins: A24 MS
part Y pins: A25 MS
part Z pins: A26 MS
part 27 pins: A27 MS
part 28 pins: A28 MS
part 29 pins: A29 MS
part 30 pins: A30 MS
part 31 pins: A31 MS
part 32 pins: A32 MS
part 33 pins: C1 MS
part 34 pins: C2 MS
part 35 pins: C3 MS
part 36 pins: C4 MS
part 37 pins: C5 MS
part 38 pins: C6 MS
part 39 pins: C7 MS
part 40 pins: C8 MS
part 41 pins: C9 MS
part 42 pins: C10 MS
part 43 pins: C11 MS
part 44 pins: C12 MS
part 45 pins: C13 MS
part 46 pins: C14 MS
part 47 pins: C15 MS
part 48 pins: C16 MS
part 49 pins: C17 MS
part 50 pins: C18 MS
part 51 pins: C19 MS
part 52 pins: C20 MS
part 53 pins: C21 MS
part 54 pins: C22 MS
part 55 pins: C23 MS
part 56 pins: C24 MS
part 57 pins: C25 MS
part 58 pins: C26 MS
part 59 pins: C27 MS
part 60 pins: C28 MS
part 61 pins: C29 MS
part 62 pins: C30 MS
part 63 pins: C31 MS
part 64 pins: C32 MSV

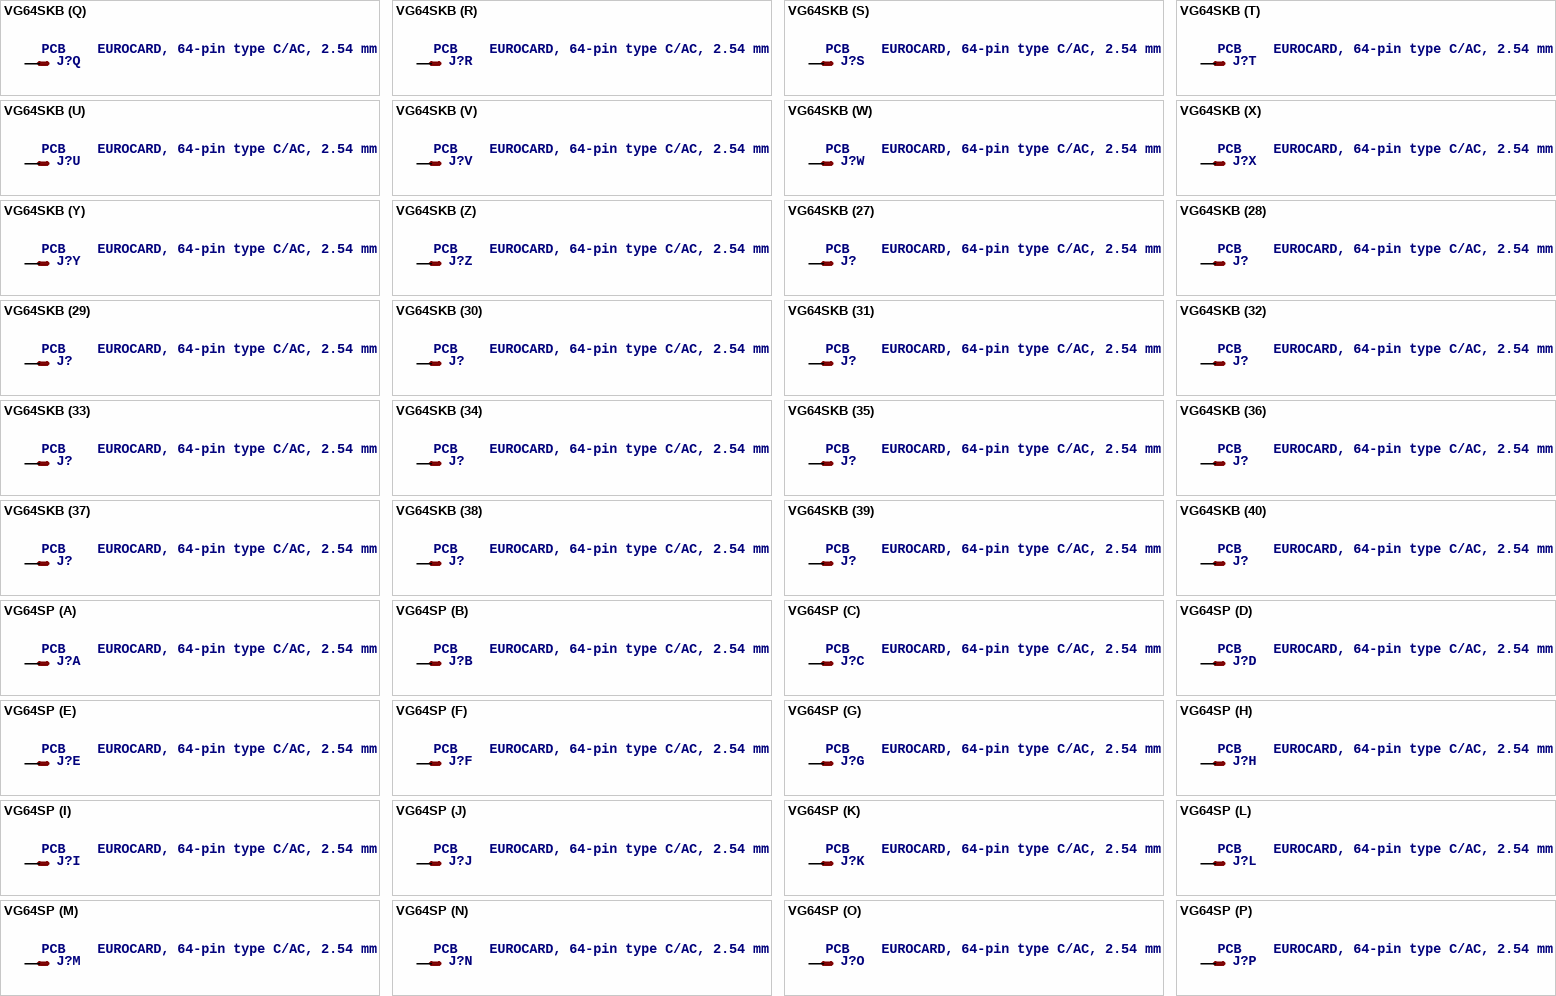
[diagram p10: symbols VG64SKB to VG64SP]

## VG64SKB
designator J?, comment PCB    EUROCARD, 64-pin type C/AC, 2.54 mm
footprint VG64KB
part A pins: A1 MS
part B pins: A2 MS
part C pins: A3 MS
part D pins: A4 MS
part E pins: A5 MS
part F pins: A6 MS
part G pins: A7 MS
part H pins: A8 MS
part I pins: A9 MS
part J pins: A10 MS
part K pins: A11 MS
part L pins: A12 MS
part M pins: A13 MS
part N pins: A14 MS
part O pins: A15 MS
part P pins: A16 MS
part Q pins: A17 MS
part R pins: A18 MS
part S pins: A19 MS
part T pins: A20 MS
part U pins: A21 MS
part V pins: A22 MS
part W pins: A23 MS
part X pins: A24 MS
part Y pins: A25 MS
part Z pins: A26 MS
part 27 pins: A27 MS
part 28 pins: A28 MS
part 29 pins: A29 MS
part 30 pins: A30 MS
part 31 pins: A31 MS
part 32 pins: A32 MS
part 33 pins: C1 MS
part 34 pins: C2 MS
part 35 pins: C3 MS
part 36 pins: C4 MS
part 37 pins: C5 MS
part 38 pins: C6 MS
part 39 pins: C7 MS
part 40 pins: C8 MS
part 41 pins: C9 MS
part 42 pins: C10 MS
part 43 pins: C11 MS
part 44 pins: C12 MS
part 45 pins: C13 MS
part 46 pins: C14 MS
part 47 pins: C15 MS
part 48 pins: C16 MS
part 49 pins: C17 MS
part 50 pins: C18 MS
part 51 pins: C19 MS
part 52 pins: C20 MS
part 53 pins: C21 MS
part 54 pins: C22 MS
part 55 pins: C23 MS
part 56 pins: C24 MS
part 57 pins: C25 MS
part 58 pins: C26 MS
part 59 pins: C27 MS
part 60 pins: C28 MS
part 61 pins: C29 MS
part 62 pins: C30 MS
part 63 pins: C31 MS
part 64 pins: C32 MSV

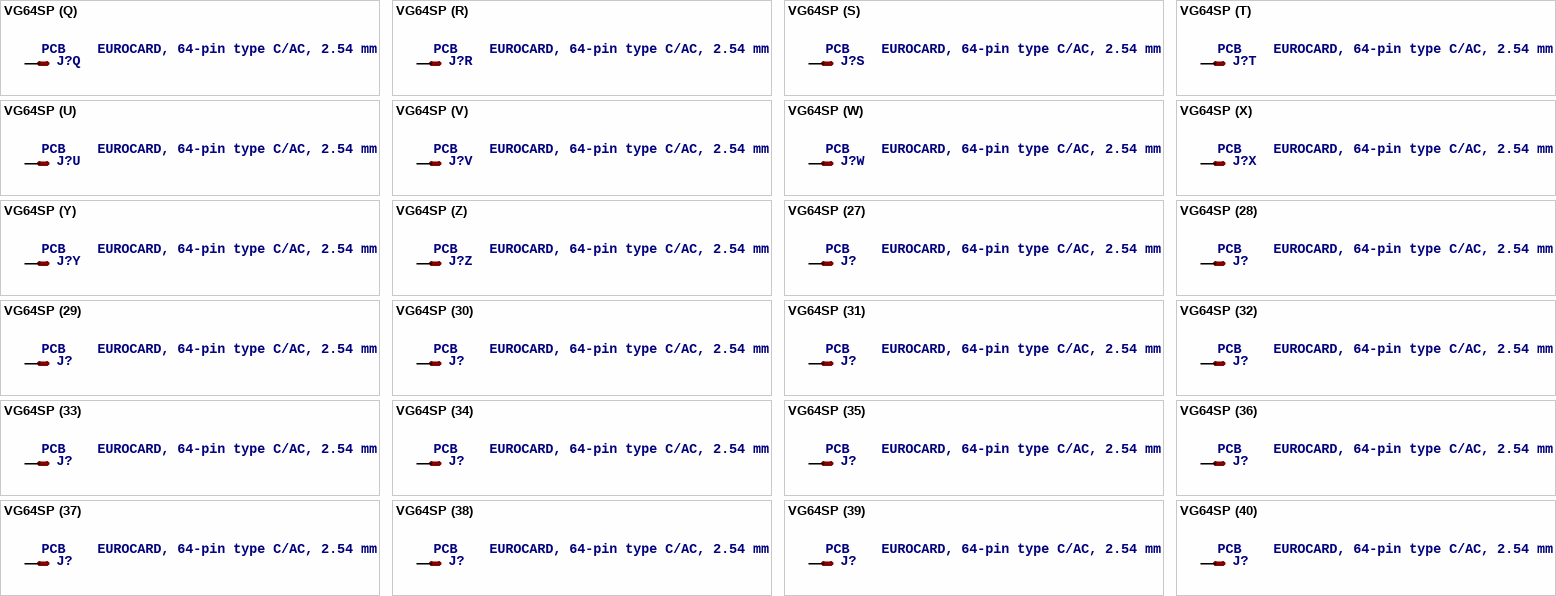
[diagram p11: symbol VG64SP]

## VG64SP
designator J?, comment PCB    EUROCARD, 64-pin type C/AC, 2.54 mm
footprint VG64P
part A pins: A1 MS
part B pins: A2 MS
part C pins: A3 MS
part D pins: A4 MS
part E pins: A5 MS
part F pins: A6 MS
part G pins: A7 MS
part H pins: A8 MS
part I pins: A9 MS
part J pins: A10 MS
part K pins: A11 MS
part L pins: A12 MS
part M pins: A13 MS
part N pins: A14 MS
part O pins: A15 MS
part P pins: A16 MS
part Q pins: A17 MS
part R pins: A18 MS
part S pins: A19 MS
part T pins: A20 MS
part U pins: A21 MS
part V pins: A22 MS
part W pins: A23 MS
part X pins: A24 MS
part Y pins: A25 MS
part Z pins: A26 MS
part 27 pins: A27 MS
part 28 pins: A28 MS
part 29 pins: A29 MS
part 30 pins: A30 MS
part 31 pins: A31 MS
part 32 pins: A32 MS
part 33 pins: C1 MS
part 34 pins: C2 MS
part 35 pins: C3 MS
part 36 pins: C4 MS
part 37 pins: C5 MS
part 38 pins: C6 MS
part 39 pins: C7 MS
part 40 pins: C8 MS
part 41 pins: C9 MS
part 42 pins: C10 MS
part 43 pins: C11 MS
part 44 pins: C12 MS
part 45 pins: C13 MS
part 46 pins: C14 MS
part 47 pins: C15 MS
part 48 pins: C16 MS
part 49 pins: C17 MS
part 50 pins: C18 MS
part 51 pins: C19 MS
part 52 pins: C20 MS
part 53 pins: C21 MS
part 54 pins: C22 MS
part 55 pins: C23 MS
part 56 pins: C24 MS
part 57 pins: C25 MS
part 58 pins: C26 MS
part 59 pins: C27 MS
part 60 pins: C28 MS
part 61 pins: C29 MS
part 62 pins: C30 MS
part 63 pins: C31 MS
part 64 pins: C32 MSV

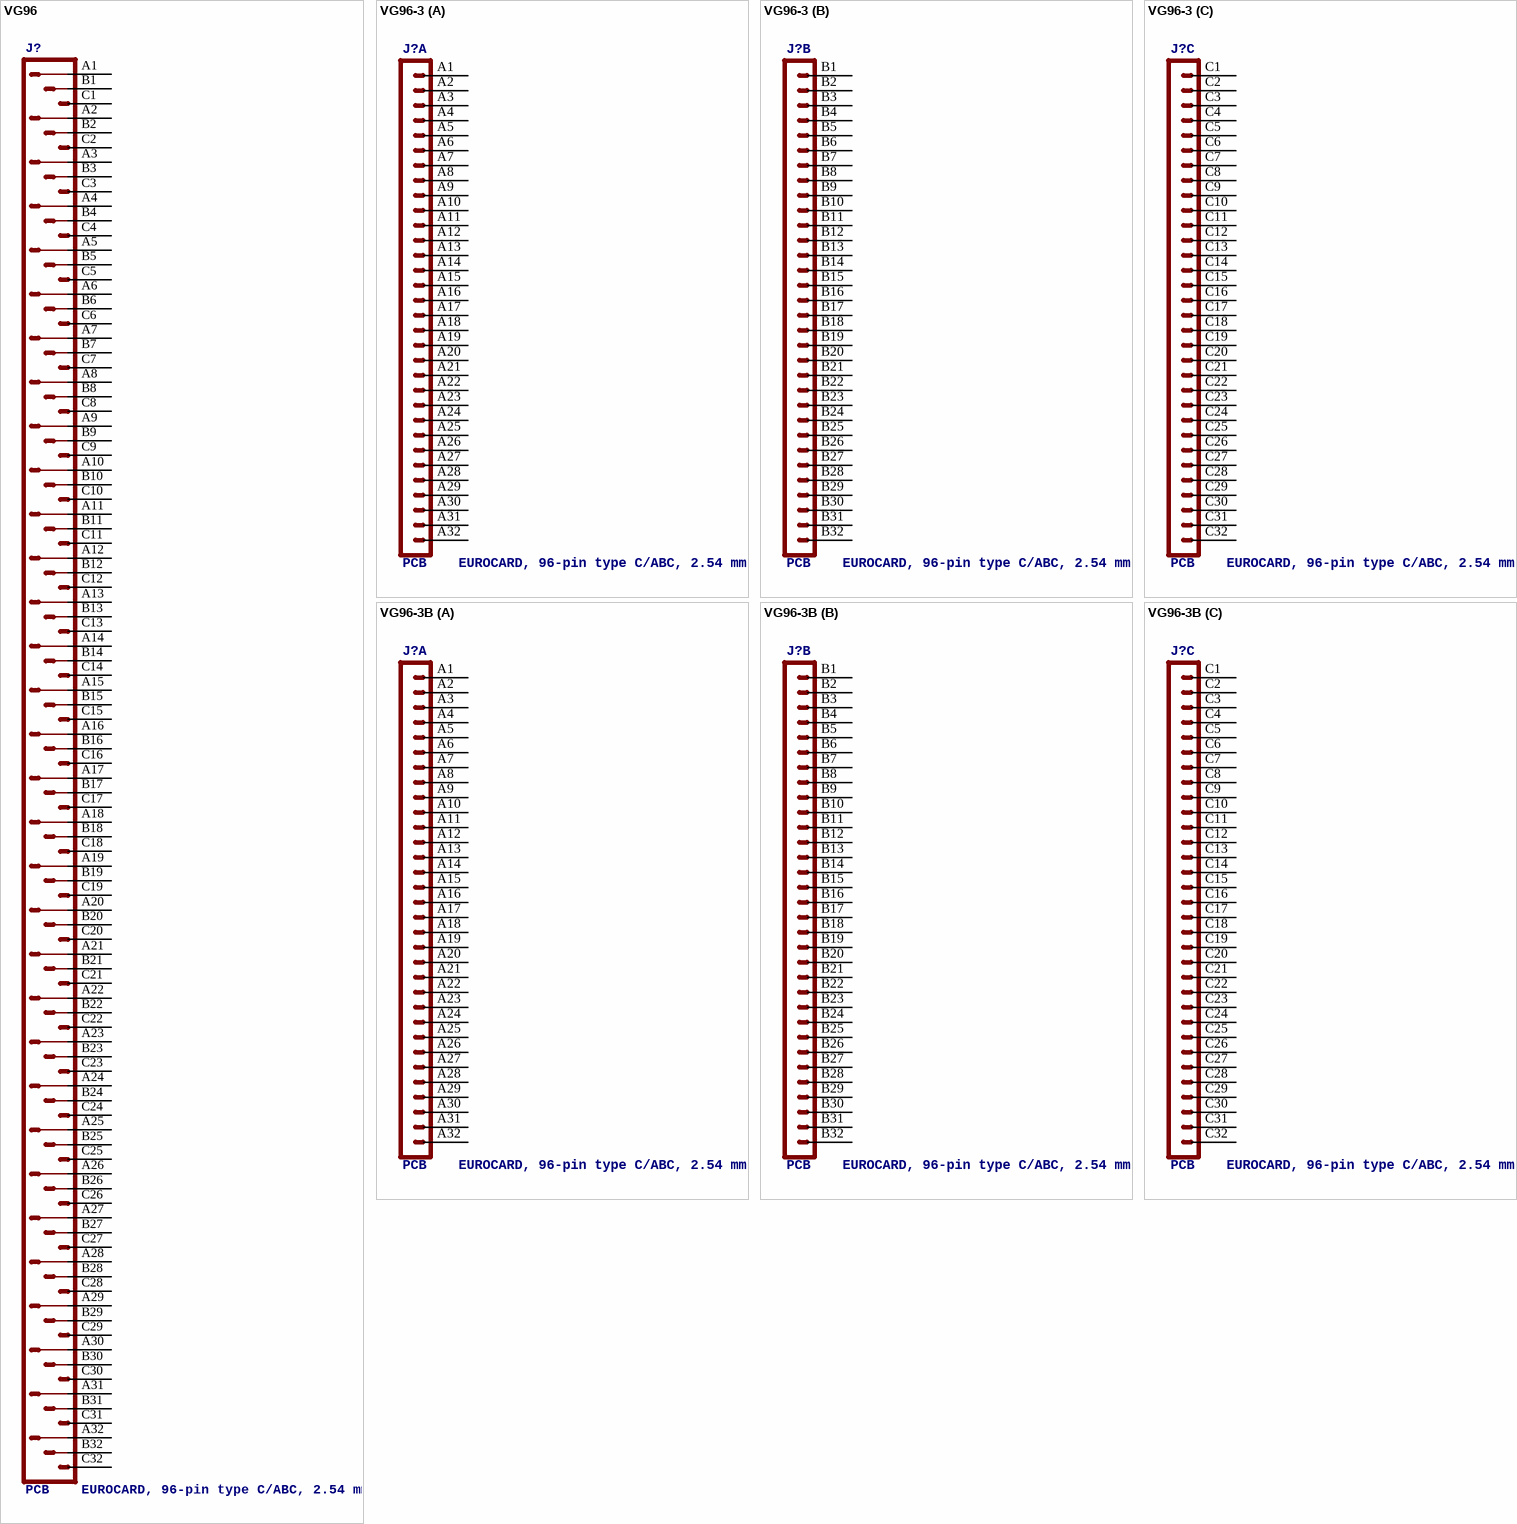
[diagram p12: symbols VG96 to VG96-3B]

## VG96
designator J?, comment PCB    EUROCARD, 96-pin type C/ABC, 2.54 mm
footprint VG96
pins: A1, A2, A3, A4, A5, A6, A7, A8, A9, A10, A11, A12, A13, A14, A15, A16, A17, A18, A19, A20, A21, A22, A23, A24, A25, A26, A27, A28, A29, A30, A31, A32, B1, B2, B3, B4, B5, B6, B7, B8, B9, B10, B11, B12, B13, B14, B15, B16, B17, B18, B19, B20, B21, B22, B23, B24, B25, B26, B27, B28, B29, B30, B31, B32, C1, C2, C3, C4, C5, C6, C7, C8, C9, C10, C11, C12, C13, C14, C15, C16, C17, C18, C19, C20, C21, C22, C23, C24, C25, C26, C27, C28, C29, C30, C31, C32

## VG96-3
designator J?, comment PCB    EUROCARD, 96-pin type C/ABC, 2.54 mm
footprint VG96
part A pins: A1 1, A2 2, A3 3, A4 4, A5 5, A6 6, A7 7, A8 8, A9 9, A10 10, A11 11, A12 12, A13 13, A14 14, A15 15, A16 16, A17 17, A18 18, A19 19, A20 20, A21 21, A22 22, A23 23, A24 24, A25 25, A26 26, A27 27, A28 28, A29 29, A30 30, A31 31, A32 32
part B pins: B1 1, B2 2, B3 3, B4 4, B5 5, B6 6, B7 7, B8 8, B9 9, B10 10, B11 11, B12 12, B13 13, B14 14, B15 15, B16 16, B17 17, B18 18, B19 19, B20 20, B21 21, B22 22, B23 23, B24 24, B25 25, B26 26, B27 27, B28 28, B29 29, B30 30, B31 31, B32 32
part C pins: C1 1, C2 2, C3 3, C4 4, C5 5, C6 6, C7 7, C8 8, C9 9, C10 10, C11 11, C12 12, C13 13, C14 14, C15 15, C16 16, C17 17, C18 18, C19 19, C20 20, C21 21, C22 22, C23 23, C24 24, C25 25, C26 26, C27 27, C28 28, C29 29, C30 30, C31 31, C32 32

## VG96-3B
designator J?, comment PCB    EUROCARD, 96-pin type C/ABC, 2.54 mm
footprint VG96B
part A pins: A1 1, A2 2, A3 3, A4 4, A5 5, A6 6, A7 7, A8 8, A9 9, A10 10, A11 11, A12 12, A13 13, A14 14, A15 15, A16 16, A17 17, A18 18, A19 19, A20 20, A21 21, A22 22, A23 23, A24 24, A25 25, A26 26, A27 27, A28 28, A29 29, A30 30, A31 31, A32 32
part B pins: B1 1, B2 2, B3 3, B4 4, B5 5, B6 6, B7 7, B8 8, B9 9, B10 10, B11 11, B12 12, B13 13, B14 14, B15 15, B16 16, B17 17, B18 18, B19 19, B20 20, B21 21, B22 22, B23 23, B24 24, B25 25, B26 26, B27 27, B28 28, B29 29, B30 30, B31 31, B32 32
part C pins: C1 1, C2 2, C3 3, C4 4, C5 5, C6 6, C7 7, C8 8, C9 9, C10 10, C11 11, C12 12, C13 13, C14 14, C15 15, C16 16, C17 17, C18 18, C19 19, C20 20, C21 21, C22 22, C23 23, C24 24, C25 25, C26 26, C27 27, C28 28, C29 29, C30 30, C31 31, C32 32

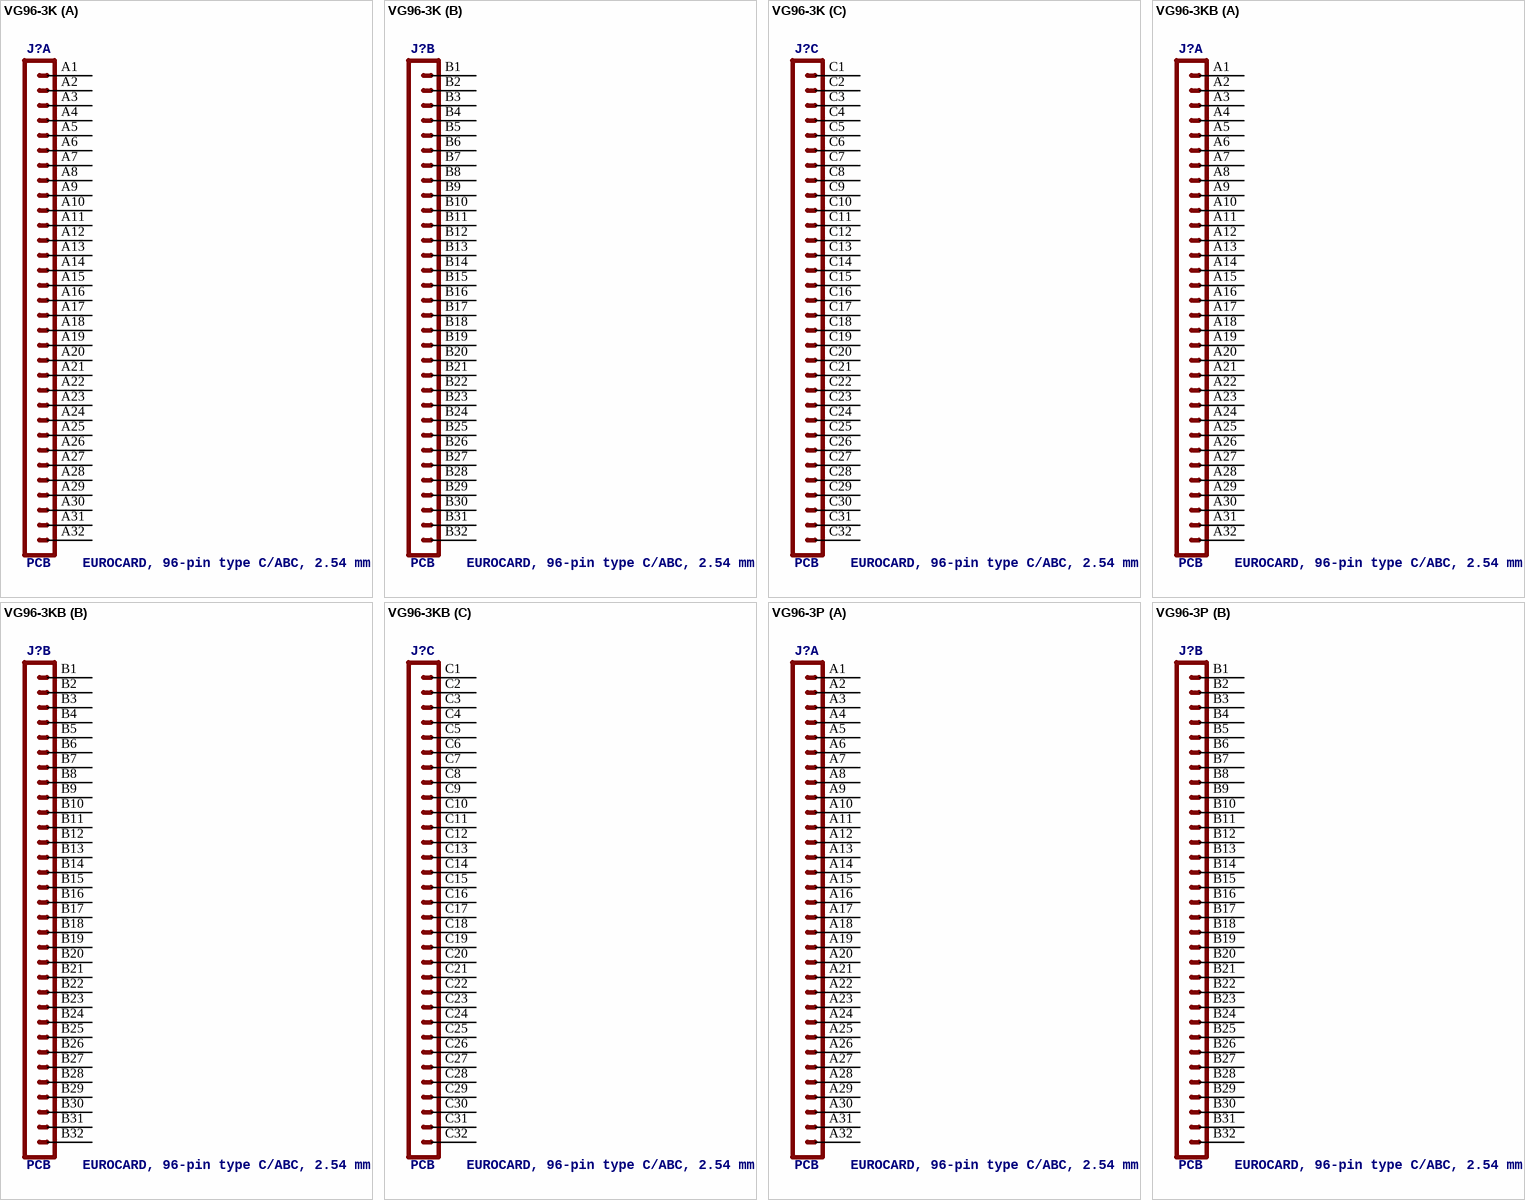
[diagram p13: symbols VG96-3K to VG96-3P]

## VG96-3K
designator J?, comment PCB    EUROCARD, 96-pin type C/ABC, 2.54 mm
footprint VG96K
part A pins: A1 1, A2 2, A3 3, A4 4, A5 5, A6 6, A7 7, A8 8, A9 9, A10 10, A11 11, A12 12, A13 13, A14 14, A15 15, A16 16, A17 17, A18 18, A19 19, A20 20, A21 21, A22 22, A23 23, A24 24, A25 25, A26 26, A27 27, A28 28, A29 29, A30 30, A31 31, A32 32
part B pins: B1 1, B2 2, B3 3, B4 4, B5 5, B6 6, B7 7, B8 8, B9 9, B10 10, B11 11, B12 12, B13 13, B14 14, B15 15, B16 16, B17 17, B18 18, B19 19, B20 20, B21 21, B22 22, B23 23, B24 24, B25 25, B26 26, B27 27, B28 28, B29 29, B30 30, B31 31, B32 32
part C pins: C1 1, C2 2, C3 3, C4 4, C5 5, C6 6, C7 7, C8 8, C9 9, C10 10, C11 11, C12 12, C13 13, C14 14, C15 15, C16 16, C17 17, C18 18, C19 19, C20 20, C21 21, C22 22, C23 23, C24 24, C25 25, C26 26, C27 27, C28 28, C29 29, C30 30, C31 31, C32 32

## VG96-3KB
designator J?, comment PCB    EUROCARD, 96-pin type C/ABC, 2.54 mm
footprint VG96KB
part A pins: A1 1, A2 2, A3 3, A4 4, A5 5, A6 6, A7 7, A8 8, A9 9, A10 10, A11 11, A12 12, A13 13, A14 14, A15 15, A16 16, A17 17, A18 18, A19 19, A20 20, A21 21, A22 22, A23 23, A24 24, A25 25, A26 26, A27 27, A28 28, A29 29, A30 30, A31 31, A32 32
part B pins: B1 1, B2 2, B3 3, B4 4, B5 5, B6 6, B7 7, B8 8, B9 9, B10 10, B11 11, B12 12, B13 13, B14 14, B15 15, B16 16, B17 17, B18 18, B19 19, B20 20, B21 21, B22 22, B23 23, B24 24, B25 25, B26 26, B27 27, B28 28, B29 29, B30 30, B31 31, B32 32
part C pins: C1 1, C2 2, C3 3, C4 4, C5 5, C6 6, C7 7, C8 8, C9 9, C10 10, C11 11, C12 12, C13 13, C14 14, C15 15, C16 16, C17 17, C18 18, C19 19, C20 20, C21 21, C22 22, C23 23, C24 24, C25 25, C26 26, C27 27, C28 28, C29 29, C30 30, C31 31, C32 32

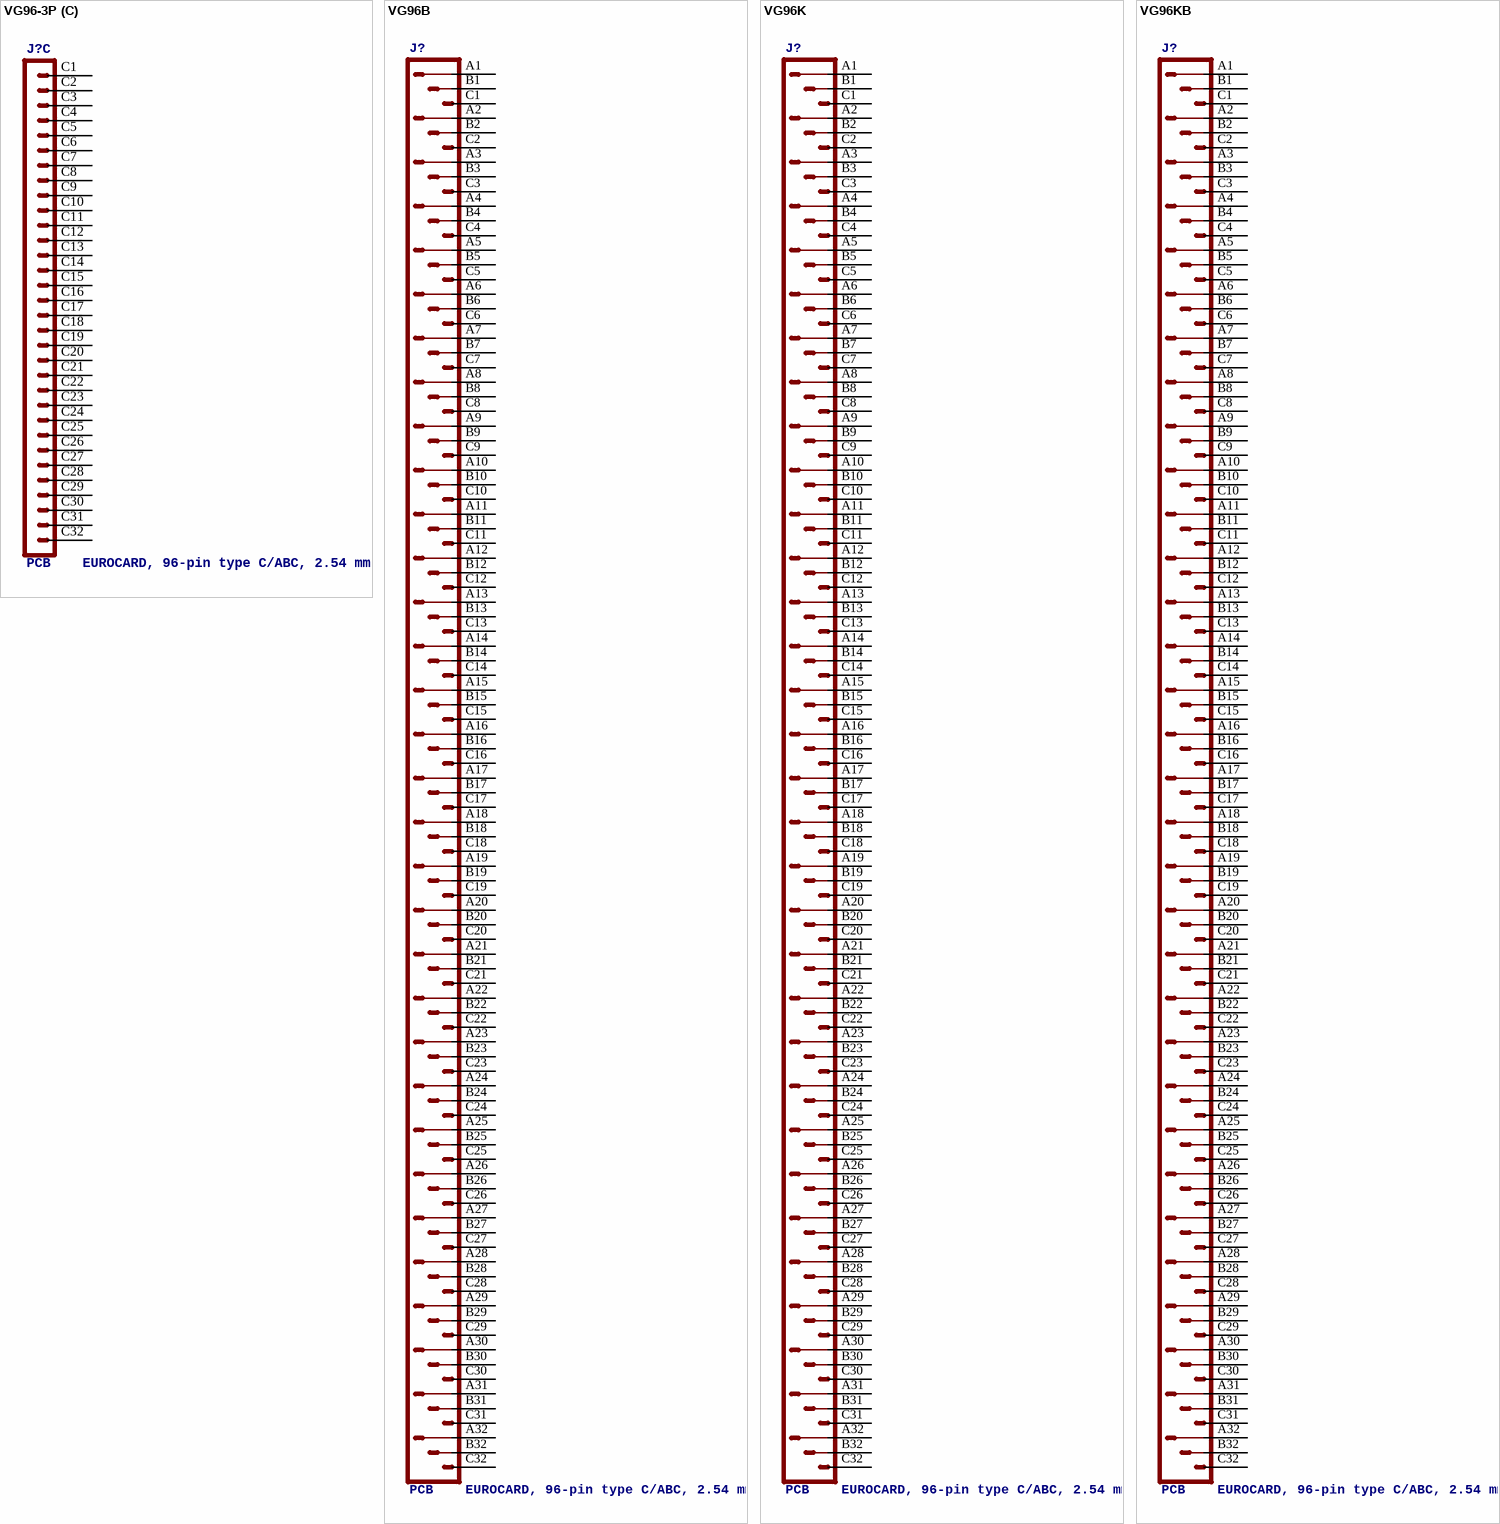
[diagram p14: symbols VG96-3P to VG96KB]

## VG96-3P
designator J?, comment PCB    EUROCARD, 96-pin type C/ABC, 2.54 mm
footprint VG96P
part A pins: A1 1, A2 2, A3 3, A4 4, A5 5, A6 6, A7 7, A8 8, A9 9, A10 10, A11 11, A12 12, A13 13, A14 14, A15 15, A16 16, A17 17, A18 18, A19 19, A20 20, A21 21, A22 22, A23 23, A24 24, A25 25, A26 26, A27 27, A28 28, A29 29, A30 30, A31 31, A32 32
part B pins: B1 1, B2 2, B3 3, B4 4, B5 5, B6 6, B7 7, B8 8, B9 9, B10 10, B11 11, B12 12, B13 13, B14 14, B15 15, B16 16, B17 17, B18 18, B19 19, B20 20, B21 21, B22 22, B23 23, B24 24, B25 25, B26 26, B27 27, B28 28, B29 29, B30 30, B31 31, B32 32
part C pins: C1 1, C2 2, C3 3, C4 4, C5 5, C6 6, C7 7, C8 8, C9 9, C10 10, C11 11, C12 12, C13 13, C14 14, C15 15, C16 16, C17 17, C18 18, C19 19, C20 20, C21 21, C22 22, C23 23, C24 24, C25 25, C26 26, C27 27, C28 28, C29 29, C30 30, C31 31, C32 32

## VG96B
designator J?, comment PCB    EUROCARD, 96-pin type C/ABC, 2.54 mm
footprint VG96B
pins: A1, A2, A3, A4, A5, A6, A7, A8, A9, A10, A11, A12, A13, A14, A15, A16, A17, A18, A19, A20, A21, A22, A23, A24, A25, A26, A27, A28, A29, A30, A31, A32, B1, B2, B3, B4, B5, B6, B7, B8, B9, B10, B11, B12, B13, B14, B15, B16, B17, B18, B19, B20, B21, B22, B23, B24, B25, B26, B27, B28, B29, B30, B31, B32, C1, C2, C3, C4, C5, C6, C7, C8, C9, C10, C11, C12, C13, C14, C15, C16, C17, C18, C19, C20, C21, C22, C23, C24, C25, C26, C27, C28, C29, C30, C31, C32

## VG96K
designator J?, comment PCB    EUROCARD, 96-pin type C/ABC, 2.54 mm
footprint VG96K
pins: A1, A2, A3, A4, A5, A6, A7, A8, A9, A10, A11, A12, A13, A14, A15, A16, A17, A18, A19, A20, A21, A22, A23, A24, A25, A26, A27, A28, A29, A30, A31, A32, B1, B2, B3, B4, B5, B6, B7, B8, B9, B10, B11, B12, B13, B14, B15, B16, B17, B18, B19, B20, B21, B22, B23, B24, B25, B26, B27, B28, B29, B30, B31, B32, C1, C2, C3, C4, C5, C6, C7, C8, C9, C10, C11, C12, C13, C14, C15, C16, C17, C18, C19, C20, C21, C22, C23, C24, C25, C26, C27, C28, C29, C30, C31, C32

## VG96KB
designator J?, comment PCB    EUROCARD, 96-pin type C/ABC, 2.54 mm
footprint VG96KB
pins: A1, A2, A3, A4, A5, A6, A7, A8, A9, A10, A11, A12, A13, A14, A15, A16, A17, A18, A19, A20, A21, A22, A23, A24, A25, A26, A27, A28, A29, A30, A31, A32, B1, B2, B3, B4, B5, B6, B7, B8, B9, B10, B11, B12, B13, B14, B15, B16, B17, B18, B19, B20, B21, B22, B23, B24, B25, B26, B27, B28, B29, B30, B31, B32, C1, C2, C3, C4, C5, C6, C7, C8, C9, C10, C11, C12, C13, C14, C15, C16, C17, C18, C19, C20, C21, C22, C23, C24, C25, C26, C27, C28, C29, C30, C31, C32

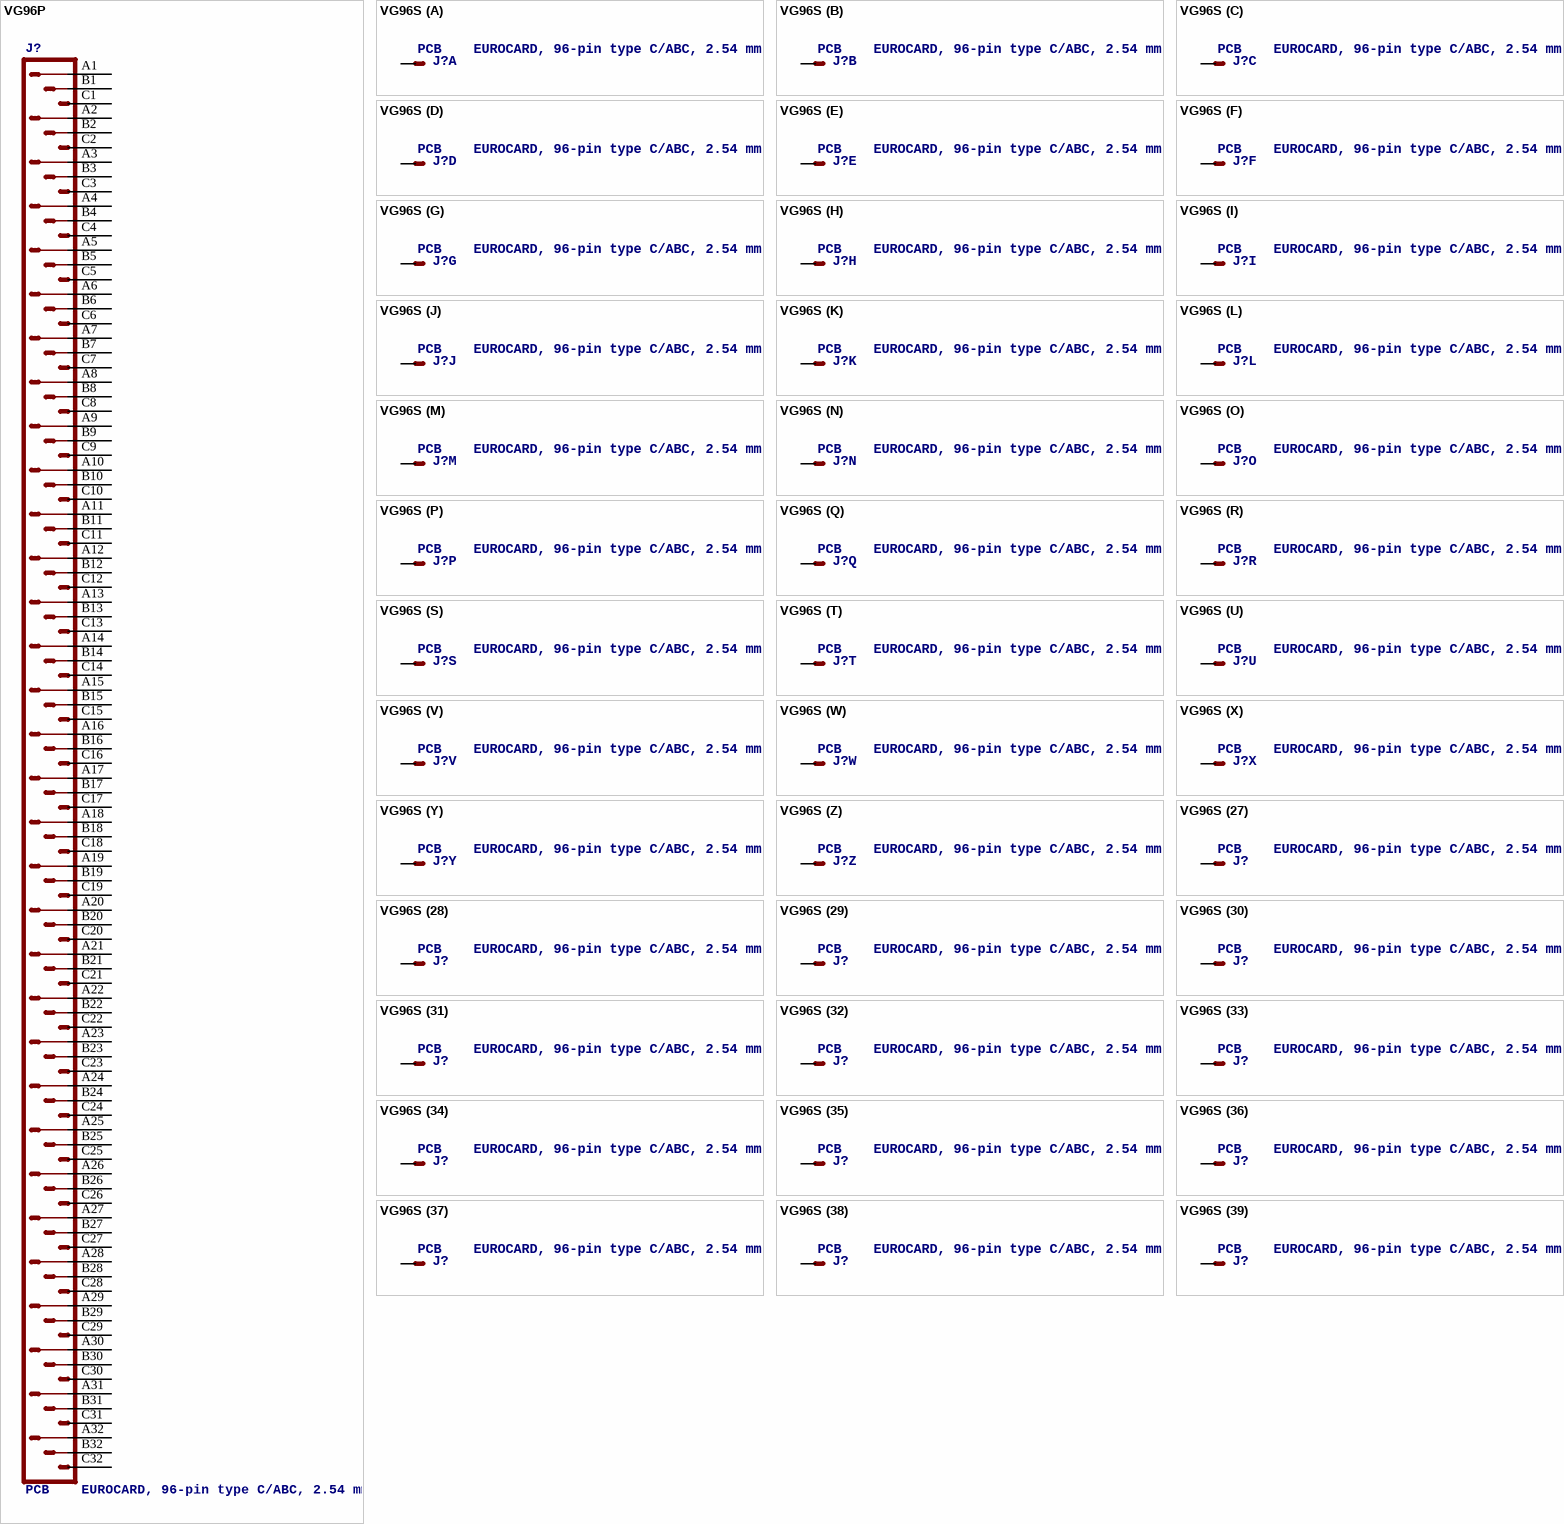
[diagram p15: symbols VG96P to VG96S]

## VG96P
designator J?, comment PCB    EUROCARD, 96-pin type C/ABC, 2.54 mm
footprint VG96P
pins: A1, A2, A3, A4, A5, A6, A7, A8, A9, A10, A11, A12, A13, A14, A15, A16, A17, A18, A19, A20, A21, A22, A23, A24, A25, A26, A27, A28, A29, A30, A31, A32, B1, B2, B3, B4, B5, B6, B7, B8, B9, B10, B11, B12, B13, B14, B15, B16, B17, B18, B19, B20, B21, B22, B23, B24, B25, B26, B27, B28, B29, B30, B31, B32, C1, C2, C3, C4, C5, C6, C7, C8, C9, C10, C11, C12, C13, C14, C15, C16, C17, C18, C19, C20, C21, C22, C23, C24, C25, C26, C27, C28, C29, C30, C31, C32

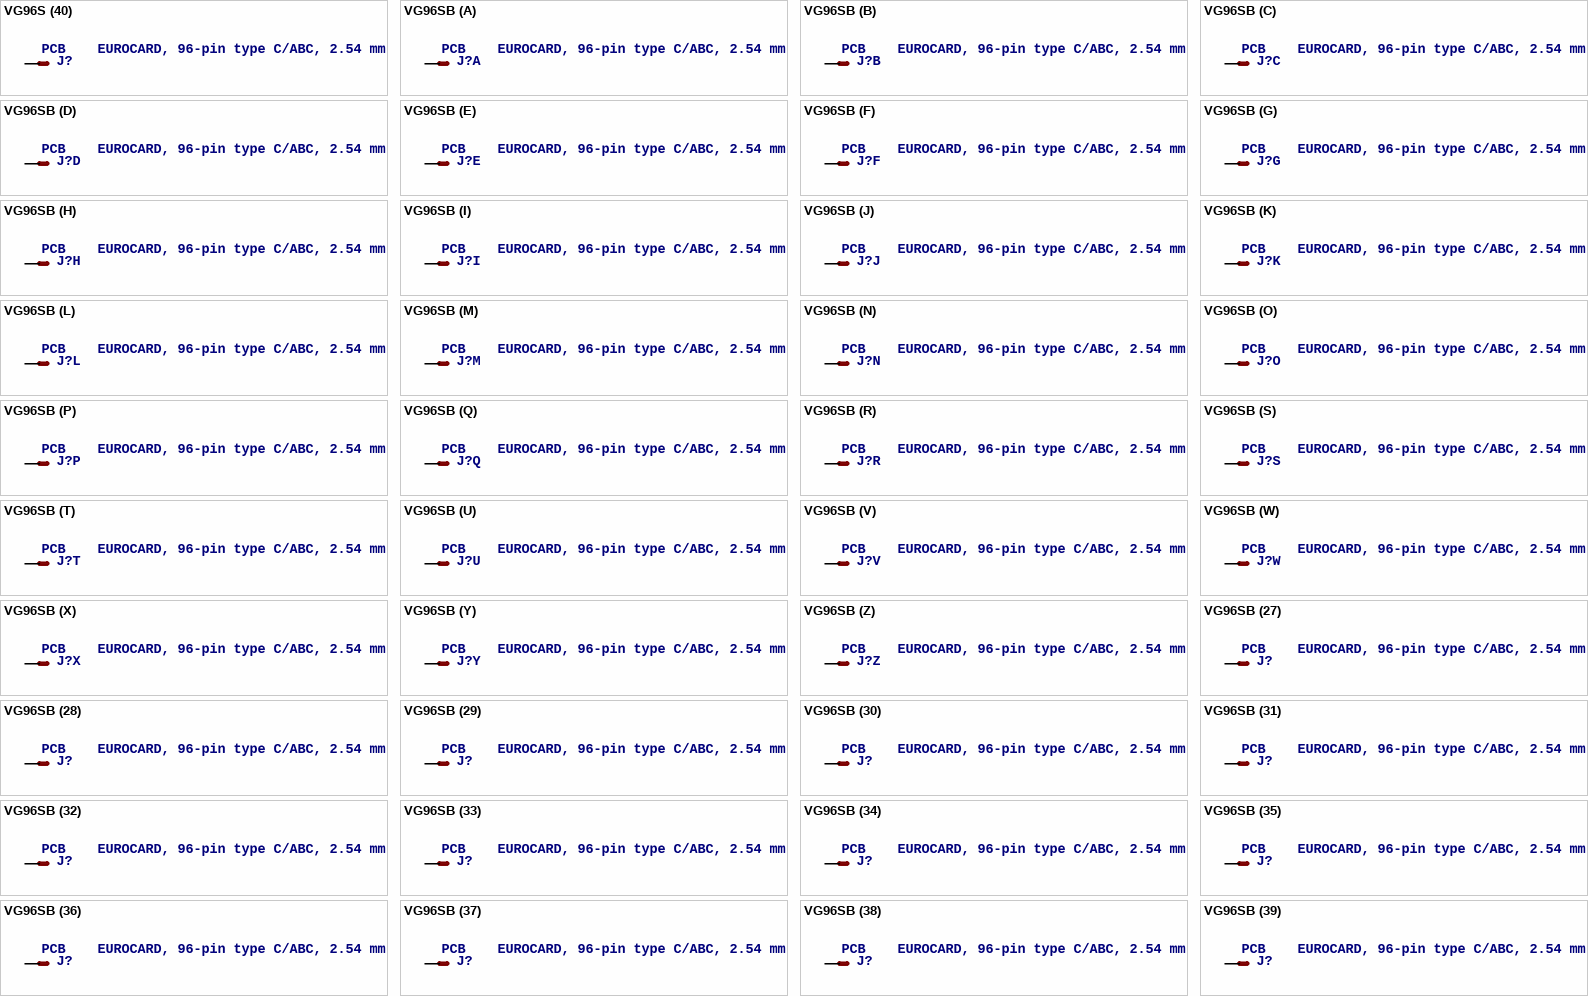
[diagram p16: symbols VG96S to VG96SB]

## VG96S
designator J?, comment PCB    EUROCARD, 96-pin type C/ABC, 2.54 mm
footprint VG96
part A pins: A1 MS
part B pins: A2 MS
part C pins: A3 MS
part D pins: A4 MS
part E pins: A5 MS
part F pins: A6 MS
part G pins: A7 MS
part H pins: A8 MS
part I pins: A9 MS
part J pins: A10 MS
part K pins: A11 MS
part L pins: A12 MS
part M pins: A13 MS
part N pins: A14 MS
part O pins: A15 MS
part P pins: A16 MS
part Q pins: A17 MS
part R pins: A18 MS
part S pins: A19 MS
part T pins: A20 MS
part U pins: A21 MS
part V pins: A22 MS
part W pins: A23 MS
part X pins: A24 MS
part Y pins: A25 MS
part Z pins: A26 MS
part 27 pins: A27 MS
part 28 pins: A28 MS
part 29 pins: A29 MS
part 30 pins: A30 MS
part 31 pins: A31 MS
part 32 pins: A32 MS
part 33 pins: B1 MS
part 34 pins: B2 MS
part 35 pins: B3 MS
part 36 pins: B4 MS
part 37 pins: B5 MS
part 38 pins: B6 MS
part 39 pins: B7 MS
part 40 pins: B8 MS
part 41 pins: B9 MS
part 42 pins: B10 MS
part 43 pins: B11 MS
part 44 pins: B12 MS
part 45 pins: B13 MS
part 46 pins: B14 MS
part 47 pins: B15 MS
part 48 pins: B16 MS
part 49 pins: B17 MS
part 50 pins: B18 MS
part 51 pins: B19 MS
part 52 pins: B20 MS
part 53 pins: B21 MS
part 54 pins: B22 MS
part 55 pins: B23 MS
part 56 pins: B24 MS
part 57 pins: B25 MS
part 58 pins: B26 MS
part 59 pins: B27 MS
part 60 pins: B28 MS
part 61 pins: B29 MS
part 62 pins: B30 MS
part 63 pins: B31 MS
part 64 pins: B32 MS
part 65 pins: C1 MS
part 66 pins: C2 MS
part 67 pins: C3 MS
part 68 pins: C4 MS
part 69 pins: C5 MS
part 70 pins: C6 MS
part 71 pins: C7 MS
part 72 pins: C8 MS
part 73 pins: C9 MS
part 74 pins: C10 MS
part 75 pins: C11 MS
part 76 pins: C12 MS
part 77 pins: C13 MS
part 78 pins: C14 MS
part 79 pins: C15 MS
part 80 pins: C16 MS
part 81 pins: C17 MS
part 82 pins: C18 MS
part 83 pins: C19 MS
part 84 pins: C20 MS
part 85 pins: C21 MS
part 86 pins: C22 MS
part 87 pins: C23 MS
part 88 pins: C24 MS
part 89 pins: C25 MS
part 90 pins: C26 MS
part 91 pins: C27 MS
part 92 pins: C28 MS
part 93 pins: C29 MS
part 94 pins: C30 MS
part 95 pins: C31 MS
part 96 pins: C32 MSV

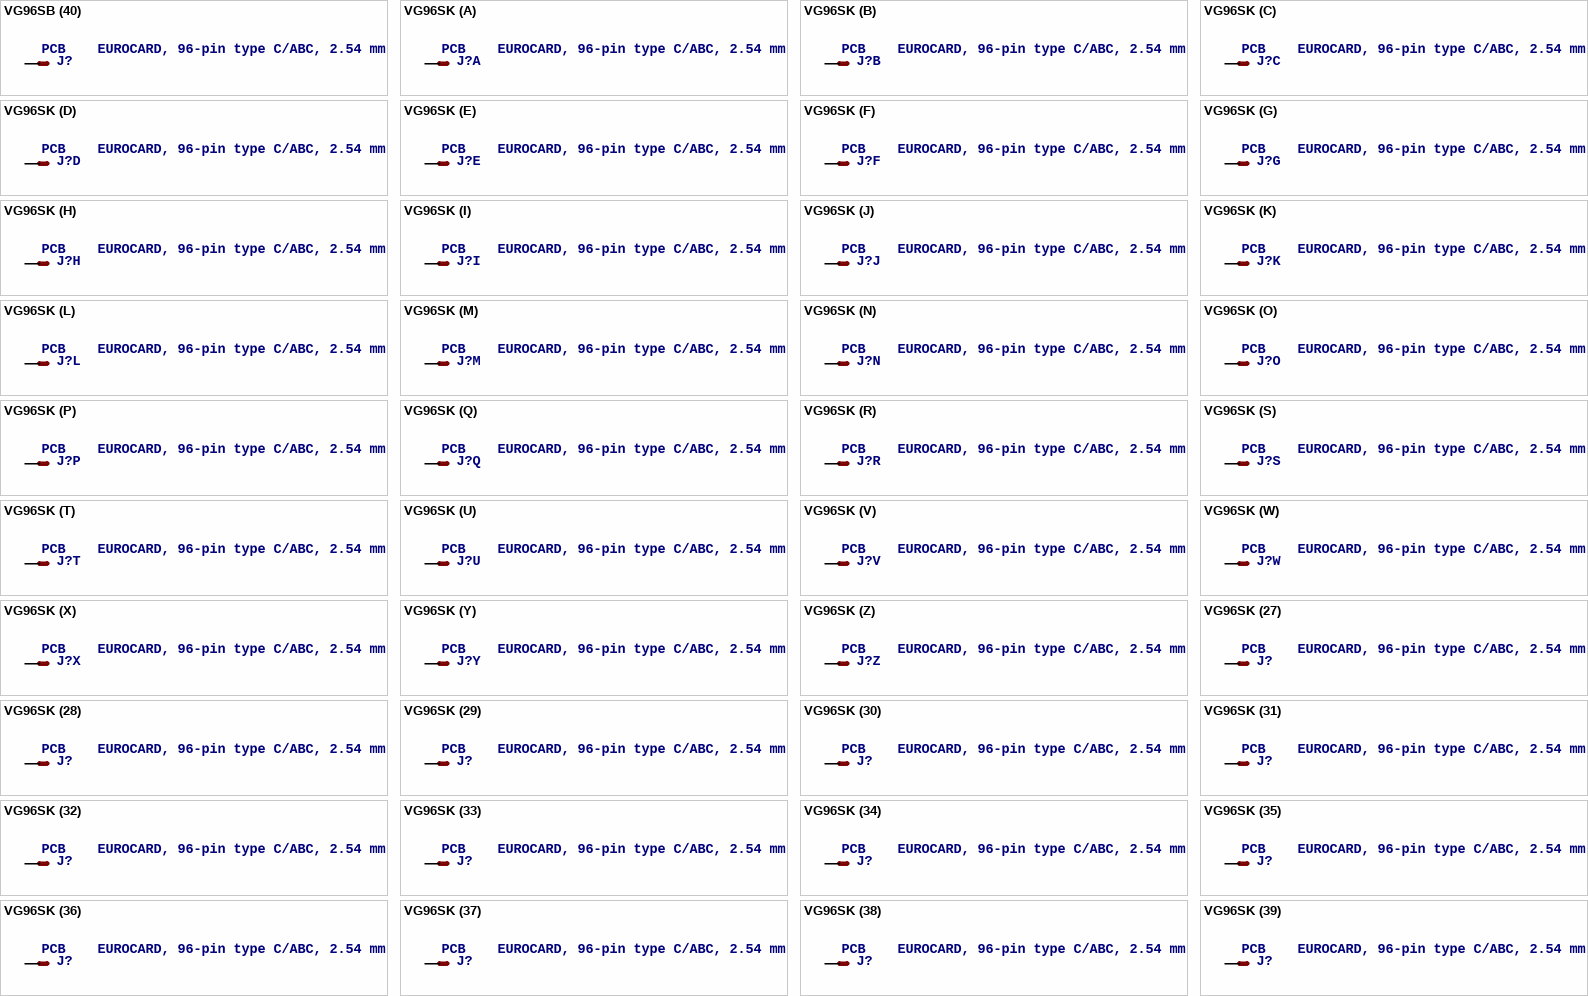
[diagram p17: symbols VG96SB to VG96SK]

## VG96SB
designator J?, comment PCB    EUROCARD, 96-pin type C/ABC, 2.54 mm
footprint VG96B
part A pins: A1 MS
part B pins: A2 MS
part C pins: A3 MS
part D pins: A4 MS
part E pins: A5 MS
part F pins: A6 MS
part G pins: A7 MS
part H pins: A8 MS
part I pins: A9 MS
part J pins: A10 MS
part K pins: A11 MS
part L pins: A12 MS
part M pins: A13 MS
part N pins: A14 MS
part O pins: A15 MS
part P pins: A16 MS
part Q pins: A17 MS
part R pins: A18 MS
part S pins: A19 MS
part T pins: A20 MS
part U pins: A21 MS
part V pins: A22 MS
part W pins: A23 MS
part X pins: A24 MS
part Y pins: A25 MS
part Z pins: A26 MS
part 27 pins: A27 MS
part 28 pins: A28 MS
part 29 pins: A29 MS
part 30 pins: A30 MS
part 31 pins: A31 MS
part 32 pins: A32 MS
part 33 pins: B1 MS
part 34 pins: B2 MS
part 35 pins: B3 MS
part 36 pins: B4 MS
part 37 pins: B5 MS
part 38 pins: B6 MS
part 39 pins: B7 MS
part 40 pins: B8 MS
part 41 pins: B9 MS
part 42 pins: B10 MS
part 43 pins: B11 MS
part 44 pins: B12 MS
part 45 pins: B13 MS
part 46 pins: B14 MS
part 47 pins: B15 MS
part 48 pins: B16 MS
part 49 pins: B17 MS
part 50 pins: B18 MS
part 51 pins: B19 MS
part 52 pins: B20 MS
part 53 pins: B21 MS
part 54 pins: B22 MS
part 55 pins: B23 MS
part 56 pins: B24 MS
part 57 pins: B25 MS
part 58 pins: B26 MS
part 59 pins: B27 MS
part 60 pins: B28 MS
part 61 pins: B29 MS
part 62 pins: B30 MS
part 63 pins: B31 MS
part 64 pins: B32 MS
part 65 pins: C1 MS
part 66 pins: C2 MS
part 67 pins: C3 MS
part 68 pins: C4 MS
part 69 pins: C5 MS
part 70 pins: C6 MS
part 71 pins: C7 MS
part 72 pins: C8 MS
part 73 pins: C9 MS
part 74 pins: C10 MS
part 75 pins: C11 MS
part 76 pins: C12 MS
part 77 pins: C13 MS
part 78 pins: C14 MS
part 79 pins: C15 MS
part 80 pins: C16 MS
part 81 pins: C17 MS
part 82 pins: C18 MS
part 83 pins: C19 MS
part 84 pins: C20 MS
part 85 pins: C21 MS
part 86 pins: C22 MS
part 87 pins: C23 MS
part 88 pins: C24 MS
part 89 pins: C25 MS
part 90 pins: C26 MS
part 91 pins: C27 MS
part 92 pins: C28 MS
part 93 pins: C29 MS
part 94 pins: C30 MS
part 95 pins: C31 MS
part 96 pins: C32 MSV

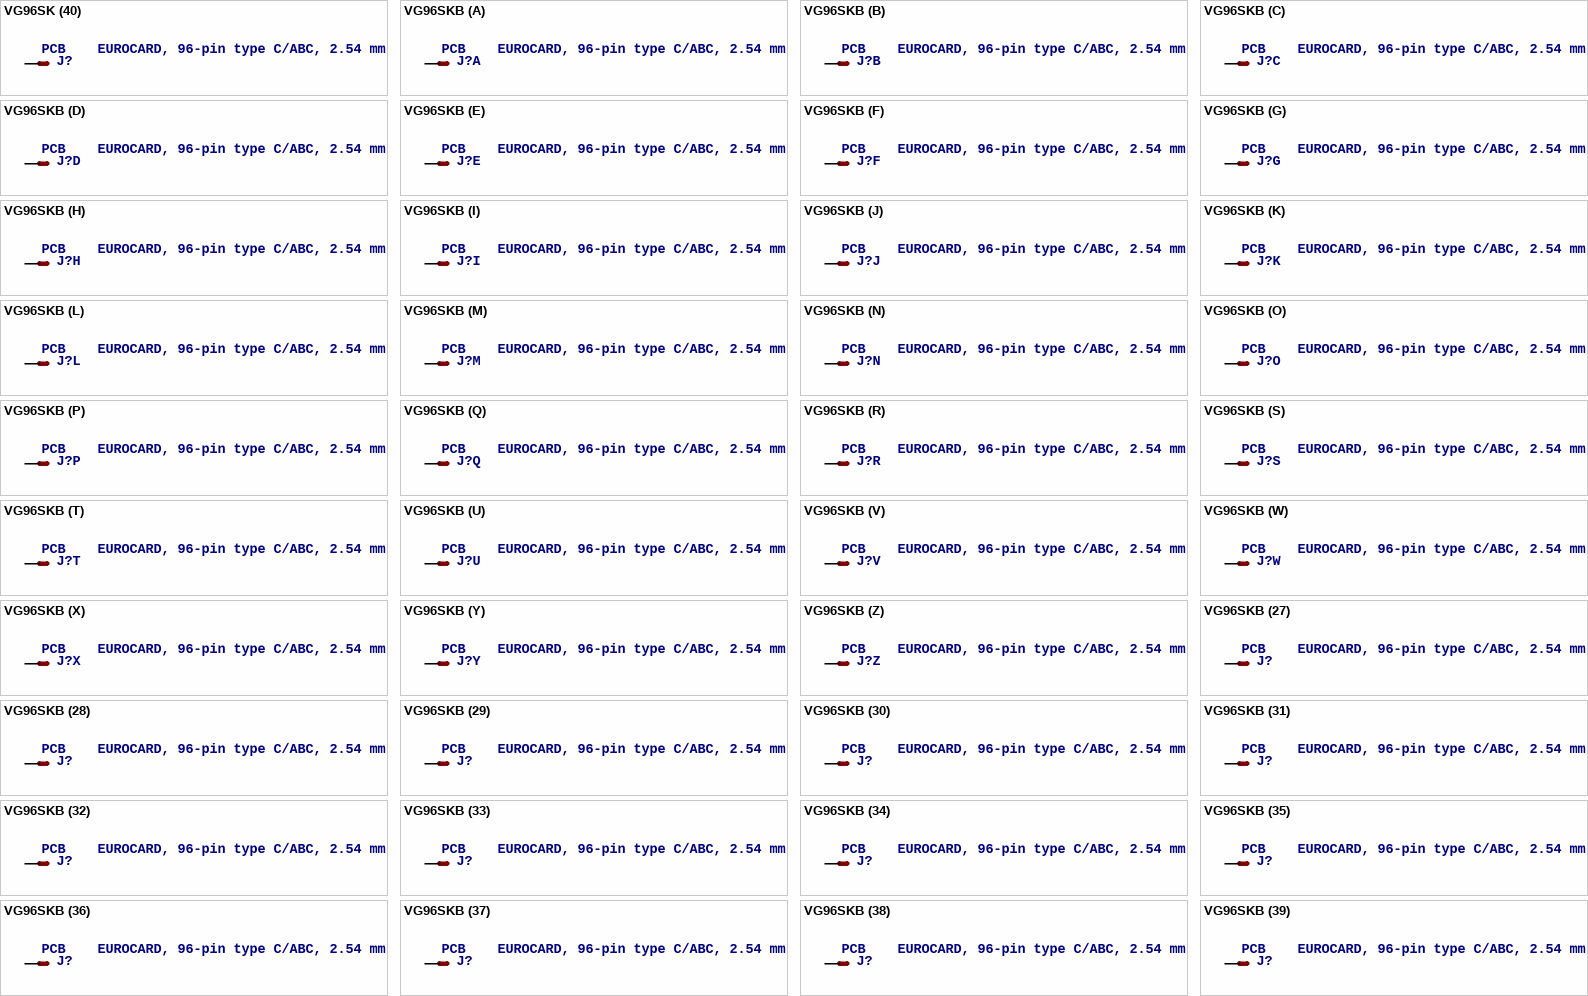
[diagram p18: symbols VG96SK to VG96SKB]

## VG96SK
designator J?, comment PCB    EUROCARD, 96-pin type C/ABC, 2.54 mm
footprint VG96K
part A pins: A1 MS
part B pins: A2 MS
part C pins: A3 MS
part D pins: A4 MS
part E pins: A5 MS
part F pins: A6 MS
part G pins: A7 MS
part H pins: A8 MS
part I pins: A9 MS
part J pins: A10 MS
part K pins: A11 MS
part L pins: A12 MS
part M pins: A13 MS
part N pins: A14 MS
part O pins: A15 MS
part P pins: A16 MS
part Q pins: A17 MS
part R pins: A18 MS
part S pins: A19 MS
part T pins: A20 MS
part U pins: A21 MS
part V pins: A22 MS
part W pins: A23 MS
part X pins: A24 MS
part Y pins: A25 MS
part Z pins: A26 MS
part 27 pins: A27 MS
part 28 pins: A28 MS
part 29 pins: A29 MS
part 30 pins: A30 MS
part 31 pins: A31 MS
part 32 pins: A32 MS
part 33 pins: B1 MS
part 34 pins: B2 MS
part 35 pins: B3 MS
part 36 pins: B4 MS
part 37 pins: B5 MS
part 38 pins: B6 MS
part 39 pins: B7 MS
part 40 pins: B8 MS
part 41 pins: B9 MS
part 42 pins: B10 MS
part 43 pins: B11 MS
part 44 pins: B12 MS
part 45 pins: B13 MS
part 46 pins: B14 MS
part 47 pins: B15 MS
part 48 pins: B16 MS
part 49 pins: B17 MS
part 50 pins: B18 MS
part 51 pins: B19 MS
part 52 pins: B20 MS
part 53 pins: B21 MS
part 54 pins: B22 MS
part 55 pins: B23 MS
part 56 pins: B24 MS
part 57 pins: B25 MS
part 58 pins: B26 MS
part 59 pins: B27 MS
part 60 pins: B28 MS
part 61 pins: B29 MS
part 62 pins: B30 MS
part 63 pins: B31 MS
part 64 pins: B32 MS
part 65 pins: C1 MS
part 66 pins: C2 MS
part 67 pins: C3 MS
part 68 pins: C4 MS
part 69 pins: C5 MS
part 70 pins: C6 MS
part 71 pins: C7 MS
part 72 pins: C8 MS
part 73 pins: C9 MS
part 74 pins: C10 MS
part 75 pins: C11 MS
part 76 pins: C12 MS
part 77 pins: C13 MS
part 78 pins: C14 MS
part 79 pins: C15 MS
part 80 pins: C16 MS
part 81 pins: C17 MS
part 82 pins: C18 MS
part 83 pins: C19 MS
part 84 pins: C20 MS
part 85 pins: C21 MS
part 86 pins: C22 MS
part 87 pins: C23 MS
part 88 pins: C24 MS
part 89 pins: C25 MS
part 90 pins: C26 MS
part 91 pins: C27 MS
part 92 pins: C28 MS
part 93 pins: C29 MS
part 94 pins: C30 MS
part 95 pins: C31 MS
part 96 pins: C32 MSV

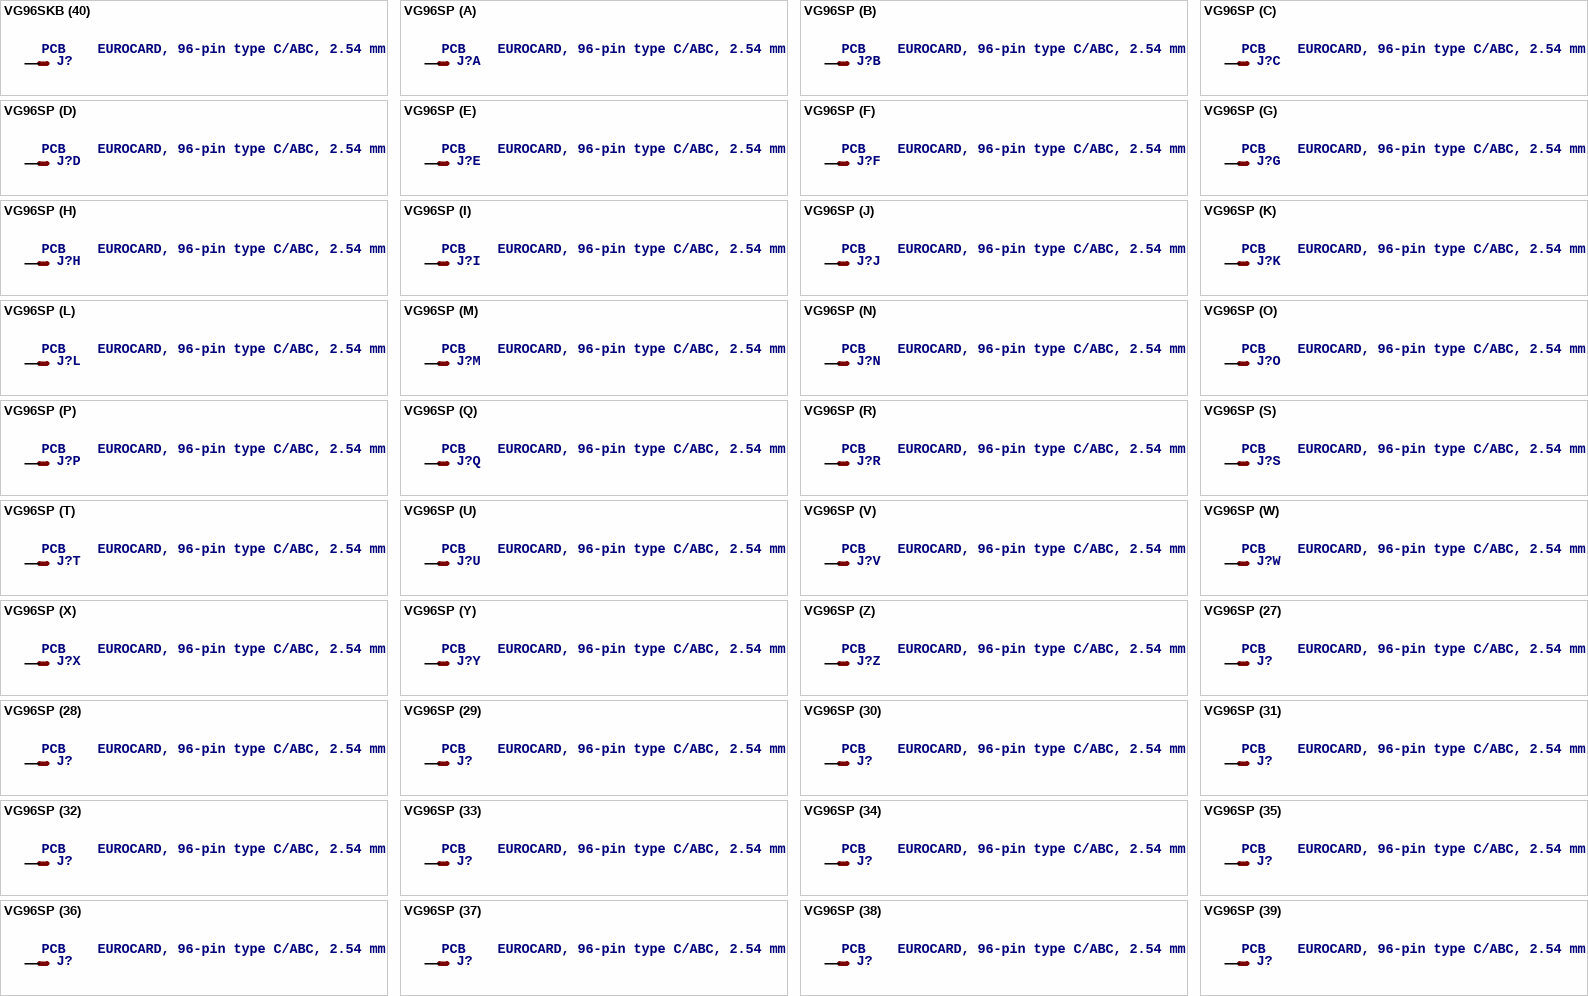
[diagram p19: symbols VG96SKB to VG96SP]

## VG96SKB
designator J?, comment PCB    EUROCARD, 96-pin type C/ABC, 2.54 mm
footprint VG96KB
part A pins: A1 MS
part B pins: A2 MS
part C pins: A3 MS
part D pins: A4 MS
part E pins: A5 MS
part F pins: A6 MS
part G pins: A7 MS
part H pins: A8 MS
part I pins: A9 MS
part J pins: A10 MS
part K pins: A11 MS
part L pins: A12 MS
part M pins: A13 MS
part N pins: A14 MS
part O pins: A15 MS
part P pins: A16 MS
part Q pins: A17 MS
part R pins: A18 MS
part S pins: A19 MS
part T pins: A20 MS
part U pins: A21 MS
part V pins: A22 MS
part W pins: A23 MS
part X pins: A24 MS
part Y pins: A25 MS
part Z pins: A26 MS
part 27 pins: A27 MS
part 28 pins: A28 MS
part 29 pins: A29 MS
part 30 pins: A30 MS
part 31 pins: A31 MS
part 32 pins: A32 MS
part 33 pins: B1 MS
part 34 pins: B2 MS
part 35 pins: B3 MS
part 36 pins: B4 MS
part 37 pins: B5 MS
part 38 pins: B6 MS
part 39 pins: B7 MS
part 40 pins: B8 MS
part 41 pins: B9 MS
part 42 pins: B10 MS
part 43 pins: B11 MS
part 44 pins: B12 MS
part 45 pins: B13 MS
part 46 pins: B14 MS
part 47 pins: B15 MS
part 48 pins: B16 MS
part 49 pins: B17 MS
part 50 pins: B18 MS
part 51 pins: B19 MS
part 52 pins: B20 MS
part 53 pins: B21 MS
part 54 pins: B22 MS
part 55 pins: B23 MS
part 56 pins: B24 MS
part 57 pins: B25 MS
part 58 pins: B26 MS
part 59 pins: B27 MS
part 60 pins: B28 MS
part 61 pins: B29 MS
part 62 pins: B30 MS
part 63 pins: B31 MS
part 64 pins: B32 MS
part 65 pins: C1 MS
part 66 pins: C2 MS
part 67 pins: C3 MS
part 68 pins: C4 MS
part 69 pins: C5 MS
part 70 pins: C6 MS
part 71 pins: C7 MS
part 72 pins: C8 MS
part 73 pins: C9 MS
part 74 pins: C10 MS
part 75 pins: C11 MS
part 76 pins: C12 MS
part 77 pins: C13 MS
part 78 pins: C14 MS
part 79 pins: C15 MS
part 80 pins: C16 MS
part 81 pins: C17 MS
part 82 pins: C18 MS
part 83 pins: C19 MS
part 84 pins: C20 MS
part 85 pins: C21 MS
part 86 pins: C22 MS
part 87 pins: C23 MS
part 88 pins: C24 MS
part 89 pins: C25 MS
part 90 pins: C26 MS
part 91 pins: C27 MS
part 92 pins: C28 MS
part 93 pins: C29 MS
part 94 pins: C30 MS
part 95 pins: C31 MS
part 96 pins: C32 MSV

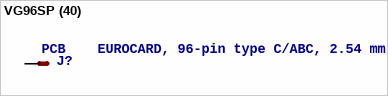
[diagram p20: symbol VG96SP]

## VG96SP
designator J?, comment PCB    EUROCARD, 96-pin type C/ABC, 2.54 mm
footprint VG96P
part A pins: A1 MS
part B pins: A2 MS
part C pins: A3 MS
part D pins: A4 MS
part E pins: A5 MS
part F pins: A6 MS
part G pins: A7 MS
part H pins: A8 MS
part I pins: A9 MS
part J pins: A10 MS
part K pins: A11 MS
part L pins: A12 MS
part M pins: A13 MS
part N pins: A14 MS
part O pins: A15 MS
part P pins: A16 MS
part Q pins: A17 MS
part R pins: A18 MS
part S pins: A19 MS
part T pins: A20 MS
part U pins: A21 MS
part V pins: A22 MS
part W pins: A23 MS
part X pins: A24 MS
part Y pins: A25 MS
part Z pins: A26 MS
part 27 pins: A27 MS
part 28 pins: A28 MS
part 29 pins: A29 MS
part 30 pins: A30 MS
part 31 pins: A31 MS
part 32 pins: A32 MS
part 33 pins: B1 MS
part 34 pins: B2 MS
part 35 pins: B3 MS
part 36 pins: B4 MS
part 37 pins: B5 MS
part 38 pins: B6 MS
part 39 pins: B7 MS
part 40 pins: B8 MS
part 41 pins: B9 MS
part 42 pins: B10 MS
part 43 pins: B11 MS
part 44 pins: B12 MS
part 45 pins: B13 MS
part 46 pins: B14 MS
part 47 pins: B15 MS
part 48 pins: B16 MS
part 49 pins: B17 MS
part 50 pins: B18 MS
part 51 pins: B19 MS
part 52 pins: B20 MS
part 53 pins: B21 MS
part 54 pins: B22 MS
part 55 pins: B23 MS
part 56 pins: B24 MS
part 57 pins: B25 MS
part 58 pins: B26 MS
part 59 pins: B27 MS
part 60 pins: B28 MS
part 61 pins: B29 MS
part 62 pins: B30 MS
part 63 pins: B31 MS
part 64 pins: B32 MS
part 65 pins: C1 MS
part 66 pins: C2 MS
part 67 pins: C3 MS
part 68 pins: C4 MS
part 69 pins: C5 MS
part 70 pins: C6 MS
part 71 pins: C7 MS
part 72 pins: C8 MS
part 73 pins: C9 MS
part 74 pins: C10 MS
part 75 pins: C11 MS
part 76 pins: C12 MS
part 77 pins: C13 MS
part 78 pins: C14 MS
part 79 pins: C15 MS
part 80 pins: C16 MS
part 81 pins: C17 MS
part 82 pins: C18 MS
part 83 pins: C19 MS
part 84 pins: C20 MS
part 85 pins: C21 MS
part 86 pins: C22 MS
part 87 pins: C23 MS
part 88 pins: C24 MS
part 89 pins: C25 MS
part 90 pins: C26 MS
part 91 pins: C27 MS
part 92 pins: C28 MS
part 93 pins: C29 MS
part 94 pins: C30 MS
part 95 pins: C31 MS
part 96 pins: C32 MSV